# Altium schematic symbol library NXP Semiconductors Cortex-M0.SchLib: 92 symbols (part 3 of 5)
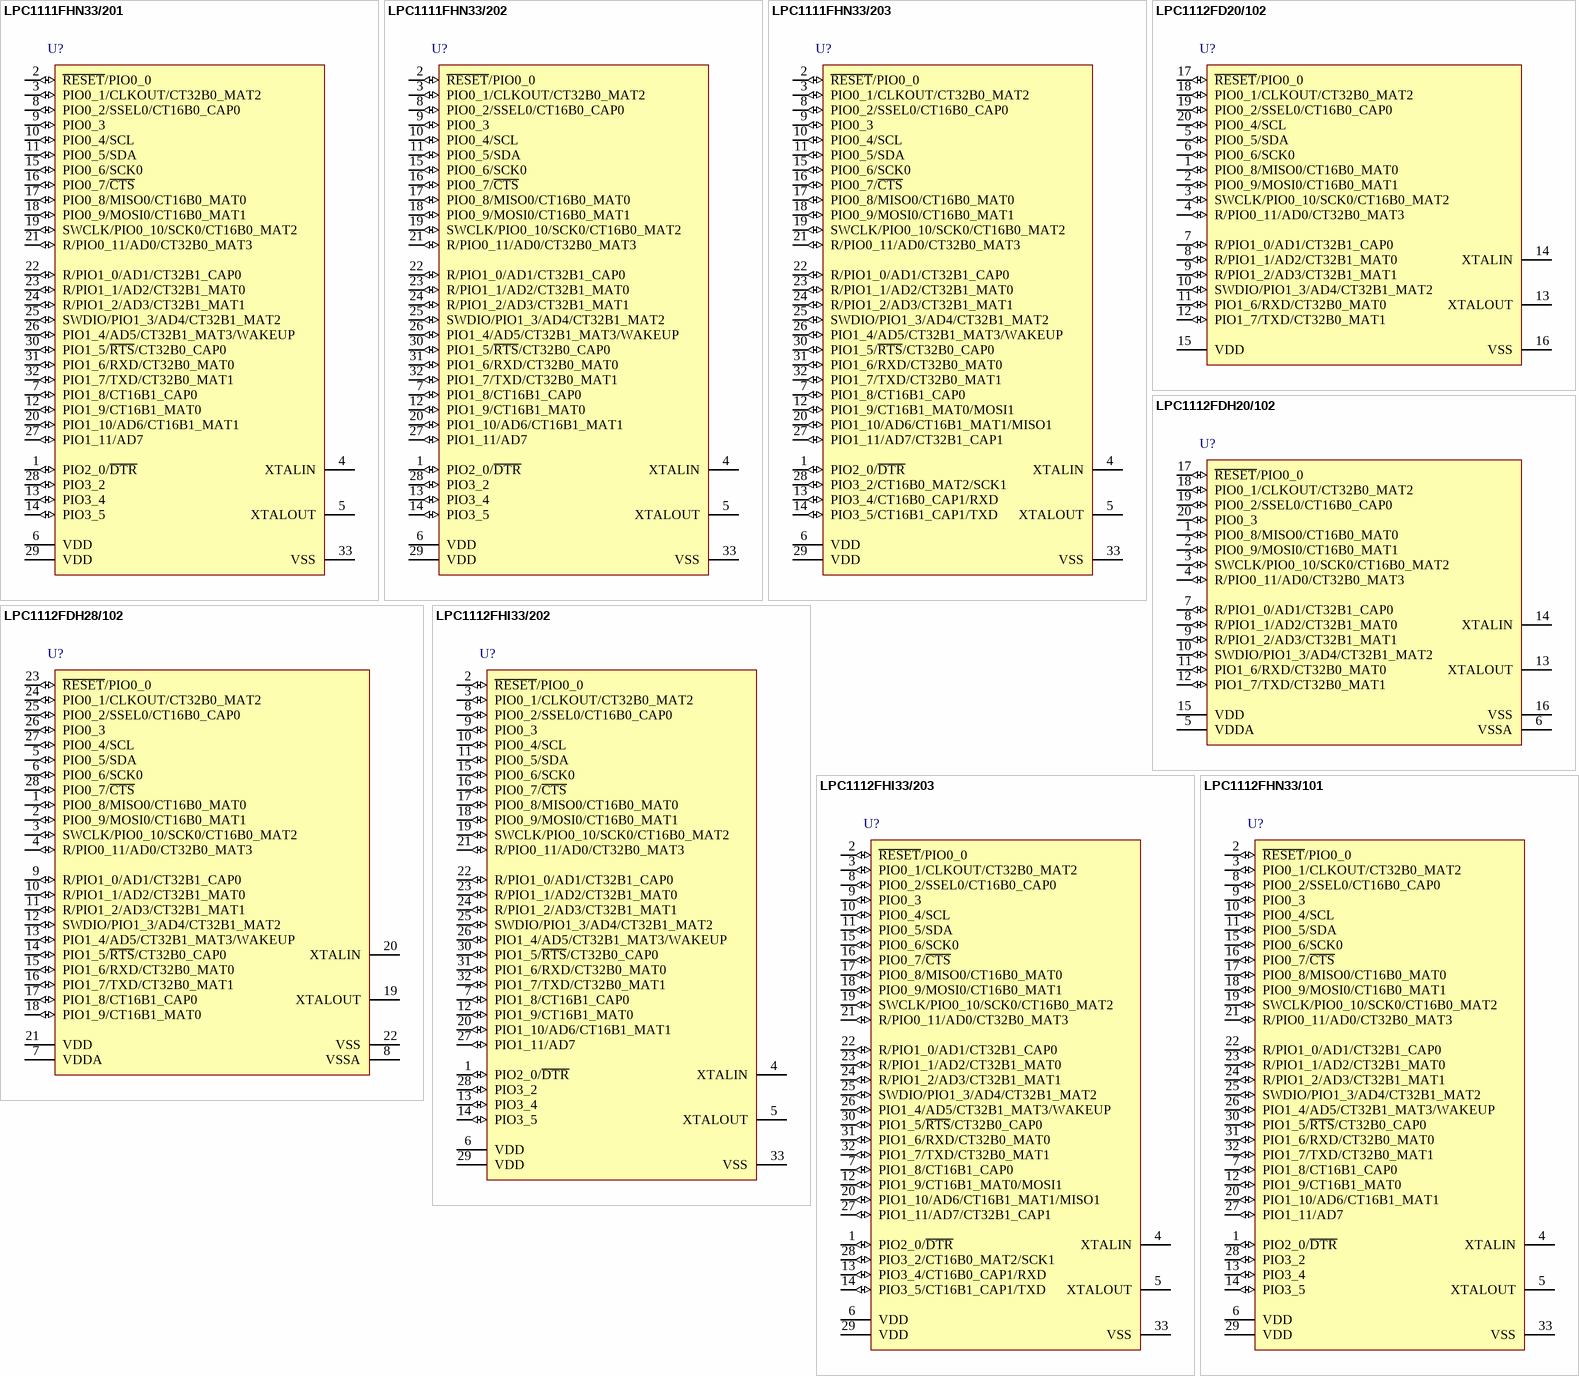
[diagram p18: symbols LPC1111FHN33/201 to LPC1112FHN33/101]

## LPC1112FDH20/102
designator U?
32-bit ARM Cortex-M0 MCU, LPC1100L Series, 16 kB Flash, 4 kB SRAM, 1 SPI, ADC, 20-Pin TSSOP; PartNumber: LPC1112FDH20/102; fmax: 50 MHz; SRAM: 4 kB; Flash: 16 kB; GPIOs: 14; UART: 1; PLL: Y; Timers: 4; ADC channels: 5; VDD (min): 1.8 V; VDD (typ): 3.3 V; VDD (max): 3.6 V; DatasheetVersion: Rev. 7.1, Apr-2012; PackageVersion: Feb-2003; PackageReference: SOT360-1; PackageDescription: TSSOP20: Plastic Thin Shrink Small Outline Package; 20 Leads; Body Width 4.4 mm; I2C: 1; SPI: 1; Code_JEDEC: MO-153; ComponentLink1Description: Manufacturer URL; ComponentLink1URL: http://www.nxp.com/; ComponentLink2Description: Datasheet; ComponentLink2URL: http://www.nxp.com/documents/data_sheet/LPC111X.pdf
footprint SOT360-1_V (TSOP, 20-Leads, Body 6.5x4.4mm, Pitch 0.65mm, NXP Recommended)
pins: 1 PIO0_8/MISO0/CT16B0_MAT0 (io), 2 PIO0_9/MOSI0/CT16B0_MAT1 (io), 3 SWCLK/PIO0_10/SCK0/CT16B0_MAT2 (io), 4 R/PIO0_11/AD0/CT32B0_MAT3 (io), 5 VDDA (power), 6 VSSA (power), 7 R/PIO1_0/AD1/CT32B1_CAP0 (io), 8 R/PIO1_1/AD2/CT32B1_MAT0 (io), 9 R/PIO1_2/AD3/CT32B1_MAT1 (io), 10 SWDIO/PIO1_3/AD4/CT32B1_MAT2 (io), 11 PIO1_6/RXD/CT32B0_MAT0 (io), 12 PIO1_7/TXD/CT32B0_MAT1 (io), 13 XTALOUT, 14 XTALIN, 15 VDD (power), 16 VSS (power), 17 ~{RESET}/PIO0_0 (io), 18 PIO0_1/CLKOUT/CT32B0_MAT2 (io), 19 PIO0_2/SSEL0/CT16B0_CAP0 (io), 20 PIO0_3 (io)

## LPC1112FDH28/102
designator U?
32-bit ARM Cortex-M0 MCU, LPC1100L Series, 16 kB Flash, 4 kB SRAM, 1 SPI, ADC, 28-Pin TSSOP; PartNumber: LPC1112FDH28/102; fmax: 50 MHz; SRAM: 4 kB; Flash: 16 kB; GPIOs: 22; UART: 1; PLL: Y; Timers: 4; ADC channels: 6; VDD (min): 1.8 V; VDD (typ): 3.3 V; VDD (max): 3.6 V; DatasheetVersion: Rev. 7.1, Apr-2012; PackageVersion: Feb-2003; PackageReference: SOT361-1; PackageDescription: TSSOP28: Plastic Thin Shrink Small Outline Package; 28 Leads; Body Width 4.4 mm; I2C: 1; SPI: 1; ComponentLink1Description: Manufacturer URL; ComponentLink1URL: http://www.nxp.com/; ComponentLink2Description: Datasheet; ComponentLink2URL: http://www.nxp.com/documents/data_sheet/LPC111X.pdf
footprint SOT361-1_V (SOP, 28-Leads, Body 9.7x4.4mm, Pitch 0.65mm, NXP Recommended)
pins: 1 PIO0_8/MISO0/CT16B0_MAT0 (io), 2 PIO0_9/MOSI0/CT16B0_MAT1 (io), 3 SWCLK/PIO0_10/SCK0/CT16B0_MAT2 (io), 4 R/PIO0_11/AD0/CT32B0_MAT3 (io), 5 PIO0_5/SDA (io), 6 PIO0_6/SCK0 (io), 7 VDDA (power), 8 VSSA (power), 9 R/PIO1_0/AD1/CT32B1_CAP0 (io), 10 R/PIO1_1/AD2/CT32B1_MAT0 (io), 11 R/PIO1_2/AD3/CT32B1_MAT1 (io), 12 SWDIO/PIO1_3/AD4/CT32B1_MAT2 (io), 13 PIO1_4/AD5/CT32B1_MAT3/WAKEUP (io), 14 PIO1_5/~{RTS}/CT32B0_CAP0 (io), 15 PIO1_6/RXD/CT32B0_MAT0 (io), 16 PIO1_7/TXD/CT32B0_MAT1 (io), 17 PIO1_8/CT16B1_CAP0 (io), 18 PIO1_9/CT16B1_MAT0 (io), 19 XTALOUT, 20 XTALIN, 21 VDD (power), 22 VSS (power), 23 ~{RESET}/PIO0_0 (io), 24 PIO0_1/CLKOUT/CT32B0_MAT2 (io), 25 PIO0_2/SSEL0/CT16B0_CAP0 (io), 26 PIO0_3 (io), 27 PIO0_4/SCL (io), 28 PIO0_7/~{CTS} (io)

## LPC1112FHI33/202
designator U?
32-bit ARM Cortex-M0 MCU, LPC1100L Series, 16 kB Flash, 4 kB SRAM, 1 SPI, ADC, 32-Pin HVQFN; PartNumber: LPC1112FHI33/202; fmax: 50 MHz; SRAM: 4 kB; Flash: 16 kB; GPIOs: 28; UART: 1; PLL: Y; Timers: 4; ADC channels: 8; VDD (min): 1.8 V; VDD (typ): 3.3 V; VDD (max): 3.6 V; DatasheetVersion: Rev. 7.1, Apr-2012; PackageVersion: Jun-2011; PackageReference: SOT617-3; PackageDescription: HVQFN32: Plastic Thermal Enhanced Very Thin Quad Flat Package; No Leads; 32 Terminals; Body 5 x 5 x 0.85 mm; I2C: 1; SPI: 1; Code_JEDEC: MO-220; ComponentLink1Description: Manufacturer URL; ComponentLink1URL: http://www.nxp.com/; ComponentLink2Description: Datasheet; ComponentLink2URL: http://www.nxp.com/documents/data_sheet/LPC111X.pdf
footprint SOT617-3_V (QFN, 32-Leads, Body 5x5mm, Pitch 0.5mm, Thermal Pad 3.5x3.5mm, NXP Recommended)
pins: 1 PIO2_0/~{DTR} (io), 2 ~{RESET}/PIO0_0 (io), 3 PIO0_1/CLKOUT/CT32B0_MAT2 (io), 4 XTALIN, 5 XTALOUT, 6 VDD (power), 7 PIO1_8/CT16B1_CAP0 (io), 8 PIO0_2/SSEL0/CT16B0_CAP0 (io), 9 PIO0_3 (io), 10 PIO0_4/SCL (io), 11 PIO0_5/SDA (io), 12 PIO1_9/CT16B1_MAT0 (io), 13 PIO3_4 (io), 14 PIO3_5 (io), 15 PIO0_6/SCK0 (io), 16 PIO0_7/~{CTS} (io), 17 PIO0_8/MISO0/CT16B0_MAT0 (io), 18 PIO0_9/MOSI0/CT16B0_MAT1 (io), 19 SWCLK/PIO0_10/SCK0/CT16B0_MAT2 (io), 20 PIO1_10/AD6/CT16B1_MAT1 (io), 21 R/PIO0_11/AD0/CT32B0_MAT3 (io), 22 R/PIO1_0/AD1/CT32B1_CAP0 (io), 23 R/PIO1_1/AD2/CT32B1_MAT0 (io), 24 R/PIO1_2/AD3/CT32B1_MAT1 (io), 25 SWDIO/PIO1_3/AD4/CT32B1_MAT2 (io), 26 PIO1_4/AD5/CT32B1_MAT3/WAKEUP (io), 27 PIO1_11/AD7 (io), 28 PIO3_2 (io), 29 VDD (power), 30 PIO1_5/~{RTS}/CT32B0_CAP0 (io), 31 PIO1_6/RXD/CT32B0_MAT0 (io), 32 PIO1_7/TXD/CT32B0_MAT1 (io), 33 VSS (power)

## LPC1112FHI33/203
designator U?
32-bit ARM Cortex-M0 MCU, LPC1100XL Series, 16 kB Flash, 4 kB SRAM, 2 SPI, ADC, 32-Pin HVQFN; PartNumber: LPC1112FHI33/203; fmax: 50 MHz; SRAM: 4 kB; Flash: 16 kB; GPIOs: 28; UART: 1; SPI: 2; PLL: Y; Timers: 4; ADC channels: 8; VDD (min): 1.8 V; VDD (typ): 3.3 V; VDD (max): 3.6 V; DatasheetVersion: Rev. 7.1, Apr-2012; PackageVersion: Jun-2011; PackageReference: SOT617-3; PackageDescription: HVQFN32: Plastic Thermal Enhanced Very Thin Quad Flat Package; No Leads; 32 Terminals; Body 5 x 5 x 0.85 mm; I2C: 1; Code_JEDEC: MO-220; ComponentLink1Description: Manufacturer URL; ComponentLink1URL: http://www.nxp.com/; ComponentLink2Description: Datasheet; ComponentLink2URL: http://www.nxp.com/documents/data_sheet/LPC111X.pdf
footprint SOT617-3_V (QFN, 32-Leads, Body 5x5mm, Pitch 0.5mm, Thermal Pad 3.5x3.5mm, NXP Recommended)
pins: 1 PIO2_0/~{DTR} (io), 2 ~{RESET}/PIO0_0 (io), 3 PIO0_1/CLKOUT/CT32B0_MAT2 (io), 4 XTALIN, 5 XTALOUT, 6 VDD (power), 7 PIO1_8/CT16B1_CAP0 (io), 8 PIO0_2/SSEL0/CT16B0_CAP0 (io), 9 PIO0_3 (io), 10 PIO0_4/SCL (io), 11 PIO0_5/SDA (io), 12 PIO1_9/CT16B1_MAT0/MOSI1 (io), 13 PIO3_4/CT16B0_CAP1/RXD (io), 14 PIO3_5/CT16B1_CAP1/TXD (io), 15 PIO0_6/SCK0 (io), 16 PIO0_7/~{CTS} (io), 17 PIO0_8/MISO0/CT16B0_MAT0 (io), 18 PIO0_9/MOSI0/CT16B0_MAT1 (io), 19 SWCLK/PIO0_10/SCK0/CT16B0_MAT2 (io), 20 PIO1_10/AD6/CT16B1_MAT1/MISO1 (io), 21 R/PIO0_11/AD0/CT32B0_MAT3 (io), 22 R/PIO1_0/AD1/CT32B1_CAP0 (io), 23 R/PIO1_1/AD2/CT32B1_MAT0 (io), 24 R/PIO1_2/AD3/CT32B1_MAT1 (io), 25 SWDIO/PIO1_3/AD4/CT32B1_MAT2 (io), 26 PIO1_4/AD5/CT32B1_MAT3/WAKEUP (io), 27 PIO1_11/AD7/CT32B1_CAP1 (io), 28 PIO3_2/CT16B0_MAT2/SCK1 (io), 29 VDD (power), 30 PIO1_5/~{RTS}/CT32B0_CAP0 (io), 31 PIO1_6/RXD/CT32B0_MAT0 (io), 32 PIO1_7/TXD/CT32B0_MAT1 (io), 33 VSS (power)

## LPC1112FHN33/101
designator U?
32-bit ARM Cortex-M0 MCU, LPC1100 Series, 16 kB Flash, 2 kB SRAM, 1 SPI, ADC, 32-Pin HVQFN; PartNumber: LPC1112FHN33/101; fmax: 50 MHz; SRAM: 2 kB; Flash: 16 kB; GPIOs: 28; UART: 1; PLL: Y; Timers: 4; ADC channels: 8; VDD (min): 1.8 V; VDD (typ): 3.3 V; VDD (max): 3.6 V; DatasheetVersion: Rev. 7.1, Apr-2012; PackageVersion: Jun-2009; PackageReference: SOT865-3; PackageDescription: HVQFN32: Plastic Thermal Enhanced Very Thin Quad Flat Package; No Leads; 32 Terminals; Body 7 x 7 x 0.85 mm; I2C: 1; SPI: 1; Code_JEDEC: MO-220; ComponentLink1Description: Manufacturer URL; ComponentLink1URL: http://www.nxp.com/; ComponentLink2Description: Datasheet; ComponentLink2URL: http://www.nxp.com/documents/data_sheet/LPC111X.pdf
footprint SOT865-3_V (QFN, 32-Leads, Body 7x7mm, Pitch 0.65mm, Thermal Pad 4.7x4.7mm, NXP Recommended)
footprint SOT865-3_N (QFN, 32-Leads, Body 7x7mm, Pitch 0.65mm, Thermal Pad 4.9x4.9mm, IPC Medium Density)
footprint SOT865-3_L (QFN, 32-Leads, Body 7x7mm, Pitch 0.65mm, Thermal Pad 4.9x4.9mm, IPC High Density)
footprint SOT865-3_M (QFN, 32-Leads, Body 7x7mm, Pitch 0.65mm, Thermal Pad 4.9x4.9mm, IPC Low Density)
pins: 1 PIO2_0/~{DTR} (io), 2 ~{RESET}/PIO0_0 (io), 3 PIO0_1/CLKOUT/CT32B0_MAT2 (io), 4 XTALIN, 5 XTALOUT, 6 VDD (power), 7 PIO1_8/CT16B1_CAP0 (io), 8 PIO0_2/SSEL0/CT16B0_CAP0 (io), 9 PIO0_3 (io), 10 PIO0_4/SCL (io), 11 PIO0_5/SDA (io), 12 PIO1_9/CT16B1_MAT0 (io), 13 PIO3_4 (io), 14 PIO3_5 (io), 15 PIO0_6/SCK0 (io), 16 PIO0_7/~{CTS} (io), 17 PIO0_8/MISO0/CT16B0_MAT0 (io), 18 PIO0_9/MOSI0/CT16B0_MAT1 (io), 19 SWCLK/PIO0_10/SCK0/CT16B0_MAT2 (io), 20 PIO1_10/AD6/CT16B1_MAT1 (io), 21 R/PIO0_11/AD0/CT32B0_MAT3 (io), 22 R/PIO1_0/AD1/CT32B1_CAP0 (io), 23 R/PIO1_1/AD2/CT32B1_MAT0 (io), 24 R/PIO1_2/AD3/CT32B1_MAT1 (io), 25 SWDIO/PIO1_3/AD4/CT32B1_MAT2 (io), 26 PIO1_4/AD5/CT32B1_MAT3/WAKEUP (io), 27 PIO1_11/AD7 (io), 28 PIO3_2 (io), 29 VDD (power), 30 PIO1_5/~{RTS}/CT32B0_CAP0 (io), 31 PIO1_6/RXD/CT32B0_MAT0 (io), 32 PIO1_7/TXD/CT32B0_MAT1 (io), 33 VSS (power)

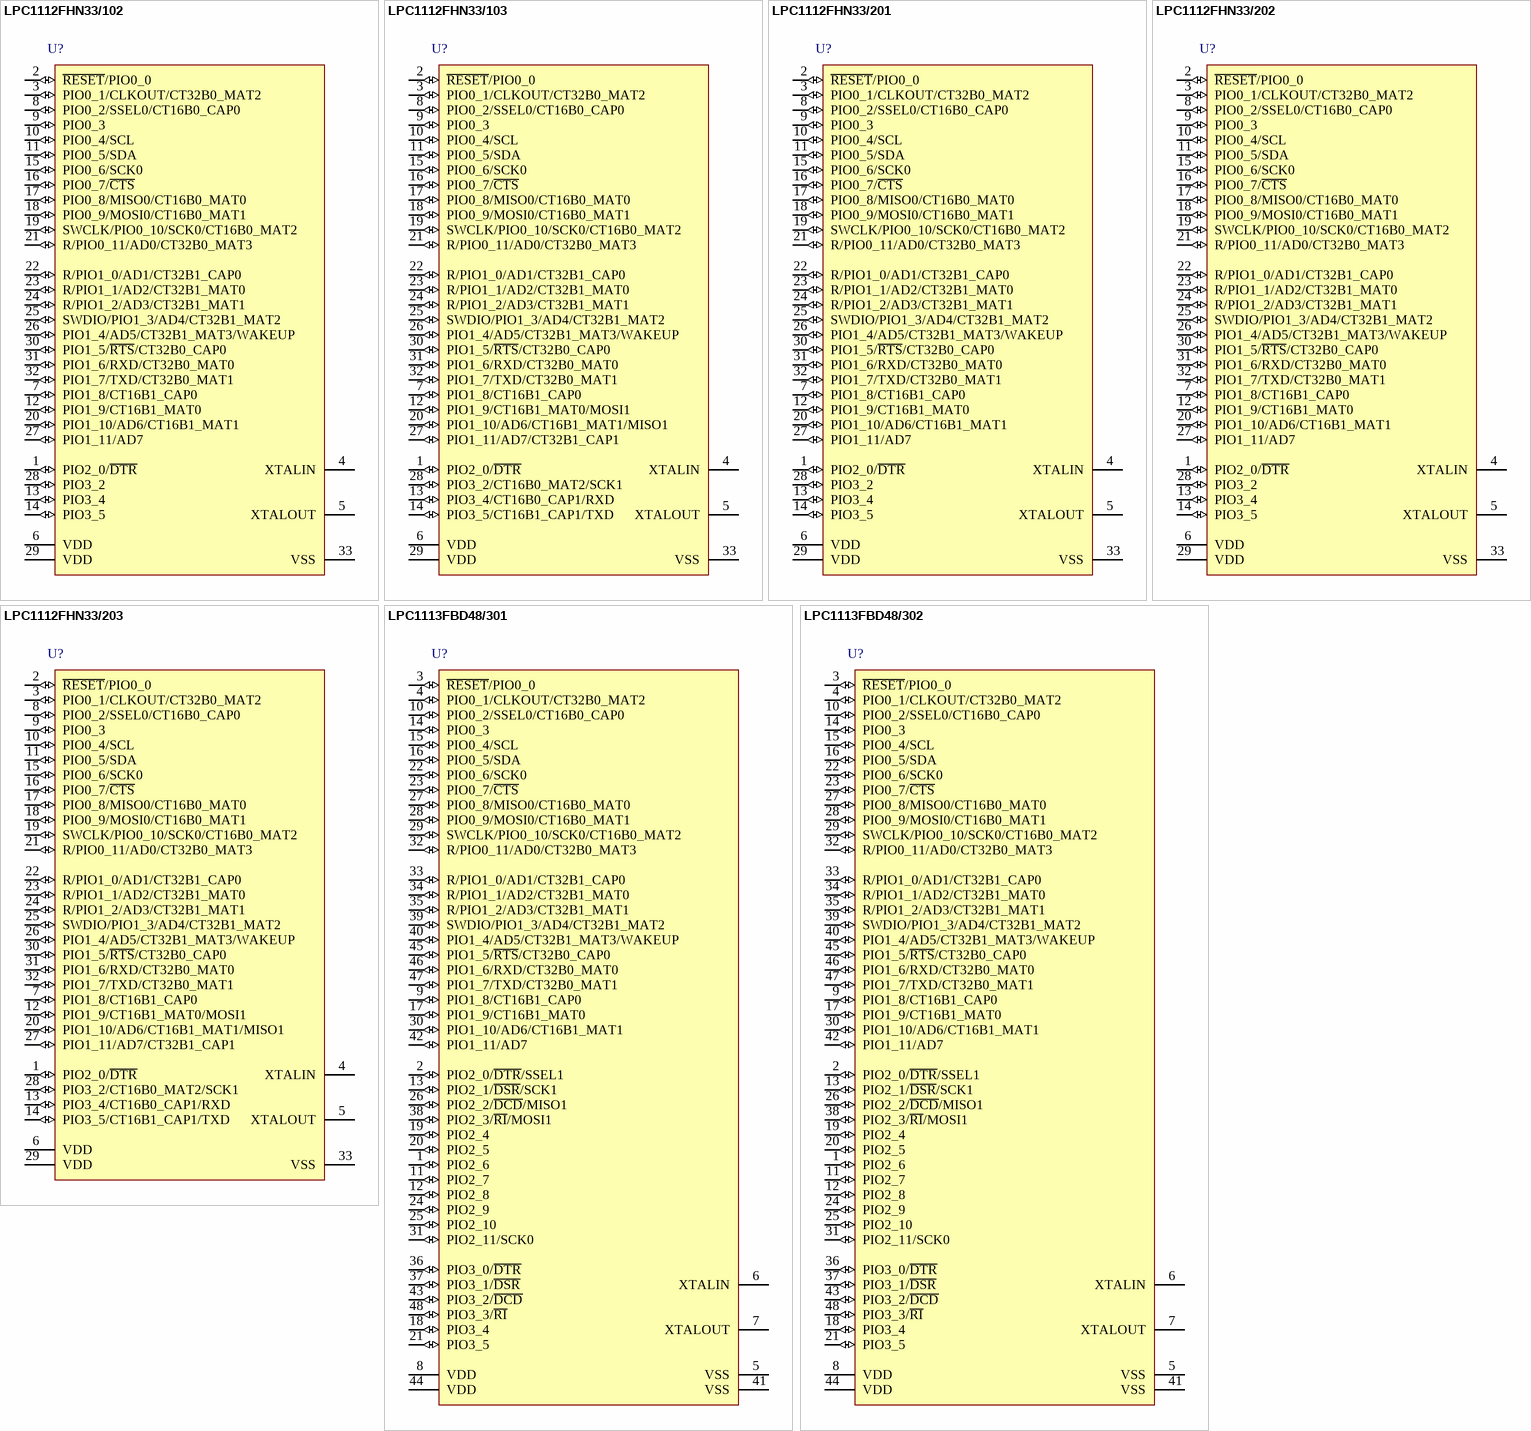
[diagram p8: symbols LPC1112FHN33/102 to LPC1113FBD48/302]

## LPC1112FHN33/102
designator U?
32-bit ARM Cortex-M0 MCU, LPC1100L Series, 16 kB Flash, 2 kB SRAM, 1 SPI, ADC, 32-Pin HVQFN; PartNumber: LPC1112FHN33/102; fmax: 50 MHz; SRAM: 2 kB; Flash: 16 kB; GPIOs: 28; UART: 1; PLL: Y; Timers: 4; ADC channels: 8; VDD (min): 1.8 V; VDD (typ): 3.3 V; VDD (max): 3.6 V; DatasheetVersion: Rev. 7.1, Apr-2012; PackageVersion: Jun-2009; PackageReference: SOT865-3; PackageDescription: HVQFN32: Plastic Thermal Enhanced Very Thin Quad Flat Package; No Leads; 32 Terminals; Body 7 x 7 x 0.85 mm; I2C: 1; SPI: 1; Code_JEDEC: MO-220; ComponentLink1Description: Manufacturer URL; ComponentLink1URL: http://www.nxp.com/; ComponentLink2Description: Datasheet; ComponentLink2URL: http://www.nxp.com/documents/data_sheet/LPC111X.pdf
footprint SOT865-3_V (QFN, 32-Leads, Body 7x7mm, Pitch 0.65mm, Thermal Pad 4.7x4.7mm, NXP Recommended)
footprint SOT865-3_N (QFN, 32-Leads, Body 7x7mm, Pitch 0.65mm, Thermal Pad 4.9x4.9mm, IPC Medium Density)
footprint SOT865-3_L (QFN, 32-Leads, Body 7x7mm, Pitch 0.65mm, Thermal Pad 4.9x4.9mm, IPC High Density)
footprint SOT865-3_M (QFN, 32-Leads, Body 7x7mm, Pitch 0.65mm, Thermal Pad 4.9x4.9mm, IPC Low Density)
pins: 1 PIO2_0/~{DTR} (io), 2 ~{RESET}/PIO0_0 (io), 3 PIO0_1/CLKOUT/CT32B0_MAT2 (io), 4 XTALIN, 5 XTALOUT, 6 VDD (power), 7 PIO1_8/CT16B1_CAP0 (io), 8 PIO0_2/SSEL0/CT16B0_CAP0 (io), 9 PIO0_3 (io), 10 PIO0_4/SCL (io), 11 PIO0_5/SDA (io), 12 PIO1_9/CT16B1_MAT0 (io), 13 PIO3_4 (io), 14 PIO3_5 (io), 15 PIO0_6/SCK0 (io), 16 PIO0_7/~{CTS} (io), 17 PIO0_8/MISO0/CT16B0_MAT0 (io), 18 PIO0_9/MOSI0/CT16B0_MAT1 (io), 19 SWCLK/PIO0_10/SCK0/CT16B0_MAT2 (io), 20 PIO1_10/AD6/CT16B1_MAT1 (io), 21 R/PIO0_11/AD0/CT32B0_MAT3 (io), 22 R/PIO1_0/AD1/CT32B1_CAP0 (io), 23 R/PIO1_1/AD2/CT32B1_MAT0 (io), 24 R/PIO1_2/AD3/CT32B1_MAT1 (io), 25 SWDIO/PIO1_3/AD4/CT32B1_MAT2 (io), 26 PIO1_4/AD5/CT32B1_MAT3/WAKEUP (io), 27 PIO1_11/AD7 (io), 28 PIO3_2 (io), 29 VDD (power), 30 PIO1_5/~{RTS}/CT32B0_CAP0 (io), 31 PIO1_6/RXD/CT32B0_MAT0 (io), 32 PIO1_7/TXD/CT32B0_MAT1 (io), 33 VSS (power)

## LPC1112FHN33/103
designator U?
32-bit ARM Cortex-M0 MCU, LPC1100XL Series, 16 kB Flash, 2 kB SRAM, 2 SPI, ADC, 32-Pin HVQFN; PartNumber: LPC1112FHN33/103; fmax: 50 MHz; SRAM: 2 kB; Flash: 16 kB; GPIOs: 28; UART: 1; SPI: 2; PLL: Y; Timers: 4; ADC channels: 8; VDD (min): 1.8 V; VDD (typ): 3.3 V; VDD (max): 3.6 V; DatasheetVersion: Rev. 7.1, Apr-2012; PackageVersion: Jun-2009; PackageReference: SOT865-3; PackageDescription: HVQFN32: Plastic Thermal Enhanced Very Thin Quad Flat Package; No Leads; 32 Terminals; Body 7 x 7 x 0.85 mm; I2C: 1; Code_JEDEC: MO-220; ComponentLink1Description: Manufacturer URL; ComponentLink1URL: http://www.nxp.com/; ComponentLink2Description: Datasheet; ComponentLink2URL: http://www.nxp.com/documents/data_sheet/LPC111X.pdf
footprint SOT865-3_V (QFN, 32-Leads, Body 7x7mm, Pitch 0.65mm, Thermal Pad 4.7x4.7mm, NXP Recommended)
footprint SOT865-3_N (QFN, 32-Leads, Body 7x7mm, Pitch 0.65mm, Thermal Pad 4.9x4.9mm, IPC Medium Density)
footprint SOT865-3_L (QFN, 32-Leads, Body 7x7mm, Pitch 0.65mm, Thermal Pad 4.9x4.9mm, IPC High Density)
footprint SOT865-3_M (QFN, 32-Leads, Body 7x7mm, Pitch 0.65mm, Thermal Pad 4.9x4.9mm, IPC Low Density)
pins: 1 PIO2_0/~{DTR} (io), 2 ~{RESET}/PIO0_0 (io), 3 PIO0_1/CLKOUT/CT32B0_MAT2 (io), 4 XTALIN, 5 XTALOUT, 6 VDD (power), 7 PIO1_8/CT16B1_CAP0 (io), 8 PIO0_2/SSEL0/CT16B0_CAP0 (io), 9 PIO0_3 (io), 10 PIO0_4/SCL (io), 11 PIO0_5/SDA (io), 12 PIO1_9/CT16B1_MAT0/MOSI1 (io), 13 PIO3_4/CT16B0_CAP1/RXD (io), 14 PIO3_5/CT16B1_CAP1/TXD (io), 15 PIO0_6/SCK0 (io), 16 PIO0_7/~{CTS} (io), 17 PIO0_8/MISO0/CT16B0_MAT0 (io), 18 PIO0_9/MOSI0/CT16B0_MAT1 (io), 19 SWCLK/PIO0_10/SCK0/CT16B0_MAT2 (io), 20 PIO1_10/AD6/CT16B1_MAT1/MISO1 (io), 21 R/PIO0_11/AD0/CT32B0_MAT3 (io), 22 R/PIO1_0/AD1/CT32B1_CAP0 (io), 23 R/PIO1_1/AD2/CT32B1_MAT0 (io), 24 R/PIO1_2/AD3/CT32B1_MAT1 (io), 25 SWDIO/PIO1_3/AD4/CT32B1_MAT2 (io), 26 PIO1_4/AD5/CT32B1_MAT3/WAKEUP (io), 27 PIO1_11/AD7/CT32B1_CAP1 (io), 28 PIO3_2/CT16B0_MAT2/SCK1 (io), 29 VDD (power), 30 PIO1_5/~{RTS}/CT32B0_CAP0 (io), 31 PIO1_6/RXD/CT32B0_MAT0 (io), 32 PIO1_7/TXD/CT32B0_MAT1 (io), 33 VSS (power)

## LPC1112FHN33/201
designator U?
32-bit ARM Cortex-M0 MCU, LPC1100 Series, 16 kB Flash, 4 kB SRAM, 1 SPI, ADC, 32-Pin HVQFN; PartNumber: LPC1112FHN33/201; fmax: 50 MHz; SRAM: 4 kB; Flash: 16 kB; GPIOs: 28; UART: 1; PLL: Y; Timers: 4; ADC channels: 8; VDD (min): 1.8 V; VDD (typ): 3.3 V; VDD (max): 3.6 V; DatasheetVersion: Rev. 7.1, Apr-2012; PackageVersion: Jun-2009; PackageReference: SOT865-3; PackageDescription: HVQFN32: Plastic Thermal Enhanced Very Thin Quad Flat Package; No Leads; 32 Terminals; Body 7 x 7 x 0.85 mm; I2C: 1; SPI: 1; Code_JEDEC: MO-220; ComponentLink1Description: Manufacturer URL; ComponentLink1URL: http://www.nxp.com/; ComponentLink2Description: Datasheet; ComponentLink2URL: http://www.nxp.com/documents/data_sheet/LPC111X.pdf
footprint SOT865-3_V (QFN, 32-Leads, Body 7x7mm, Pitch 0.65mm, Thermal Pad 4.7x4.7mm, NXP Recommended)
footprint SOT865-3_N (QFN, 32-Leads, Body 7x7mm, Pitch 0.65mm, Thermal Pad 4.9x4.9mm, IPC Medium Density)
footprint SOT865-3_L (QFN, 32-Leads, Body 7x7mm, Pitch 0.65mm, Thermal Pad 4.9x4.9mm, IPC High Density)
footprint SOT865-3_M (QFN, 32-Leads, Body 7x7mm, Pitch 0.65mm, Thermal Pad 4.9x4.9mm, IPC Low Density)
pins: 1 PIO2_0/~{DTR} (io), 2 ~{RESET}/PIO0_0 (io), 3 PIO0_1/CLKOUT/CT32B0_MAT2 (io), 4 XTALIN, 5 XTALOUT, 6 VDD (power), 7 PIO1_8/CT16B1_CAP0 (io), 8 PIO0_2/SSEL0/CT16B0_CAP0 (io), 9 PIO0_3 (io), 10 PIO0_4/SCL (io), 11 PIO0_5/SDA (io), 12 PIO1_9/CT16B1_MAT0 (io), 13 PIO3_4 (io), 14 PIO3_5 (io), 15 PIO0_6/SCK0 (io), 16 PIO0_7/~{CTS} (io), 17 PIO0_8/MISO0/CT16B0_MAT0 (io), 18 PIO0_9/MOSI0/CT16B0_MAT1 (io), 19 SWCLK/PIO0_10/SCK0/CT16B0_MAT2 (io), 20 PIO1_10/AD6/CT16B1_MAT1 (io), 21 R/PIO0_11/AD0/CT32B0_MAT3 (io), 22 R/PIO1_0/AD1/CT32B1_CAP0 (io), 23 R/PIO1_1/AD2/CT32B1_MAT0 (io), 24 R/PIO1_2/AD3/CT32B1_MAT1 (io), 25 SWDIO/PIO1_3/AD4/CT32B1_MAT2 (io), 26 PIO1_4/AD5/CT32B1_MAT3/WAKEUP (io), 27 PIO1_11/AD7 (io), 28 PIO3_2 (io), 29 VDD (power), 30 PIO1_5/~{RTS}/CT32B0_CAP0 (io), 31 PIO1_6/RXD/CT32B0_MAT0 (io), 32 PIO1_7/TXD/CT32B0_MAT1 (io), 33 VSS (power)

## LPC1112FHN33/202
designator U?
32-bit ARM Cortex-M0 MCU, LPC1100L Series, 16 kB Flash, 4 kB SRAM, 1 SPI, ADC, 32-Pin HVQFN; PartNumber: LPC1112FHN33/202; fmax: 50 MHz; SRAM: 4 kB; Flash: 16 kB; GPIOs: 28; UART: 1; PLL: Y; Timers: 4; ADC channels: 8; VDD (min): 1.8 V; VDD (typ): 3.3 V; VDD (max): 3.6 V; DatasheetVersion: Rev. 7.1, Apr-2012; PackageVersion: Jun-2009; PackageReference: SOT865-3; PackageDescription: HVQFN32: Plastic Thermal Enhanced Very Thin Quad Flat Package; No Leads; 32 Terminals; Body 7 x 7 x 0.85 mm; I2C: 1; SPI: 1; Code_JEDEC: MO-220; ComponentLink1Description: Manufacturer URL; ComponentLink1URL: http://www.nxp.com/; ComponentLink2Description: Datasheet; ComponentLink2URL: http://www.nxp.com/documents/data_sheet/LPC111X.pdf
footprint SOT865-3_V (QFN, 32-Leads, Body 7x7mm, Pitch 0.65mm, Thermal Pad 4.7x4.7mm, NXP Recommended)
footprint SOT865-3_N (QFN, 32-Leads, Body 7x7mm, Pitch 0.65mm, Thermal Pad 4.9x4.9mm, IPC Medium Density)
footprint SOT865-3_L (QFN, 32-Leads, Body 7x7mm, Pitch 0.65mm, Thermal Pad 4.9x4.9mm, IPC High Density)
footprint SOT865-3_M (QFN, 32-Leads, Body 7x7mm, Pitch 0.65mm, Thermal Pad 4.9x4.9mm, IPC Low Density)
pins: 1 PIO2_0/~{DTR} (io), 2 ~{RESET}/PIO0_0 (io), 3 PIO0_1/CLKOUT/CT32B0_MAT2 (io), 4 XTALIN, 5 XTALOUT, 6 VDD (power), 7 PIO1_8/CT16B1_CAP0 (io), 8 PIO0_2/SSEL0/CT16B0_CAP0 (io), 9 PIO0_3 (io), 10 PIO0_4/SCL (io), 11 PIO0_5/SDA (io), 12 PIO1_9/CT16B1_MAT0 (io), 13 PIO3_4 (io), 14 PIO3_5 (io), 15 PIO0_6/SCK0 (io), 16 PIO0_7/~{CTS} (io), 17 PIO0_8/MISO0/CT16B0_MAT0 (io), 18 PIO0_9/MOSI0/CT16B0_MAT1 (io), 19 SWCLK/PIO0_10/SCK0/CT16B0_MAT2 (io), 20 PIO1_10/AD6/CT16B1_MAT1 (io), 21 R/PIO0_11/AD0/CT32B0_MAT3 (io), 22 R/PIO1_0/AD1/CT32B1_CAP0 (io), 23 R/PIO1_1/AD2/CT32B1_MAT0 (io), 24 R/PIO1_2/AD3/CT32B1_MAT1 (io), 25 SWDIO/PIO1_3/AD4/CT32B1_MAT2 (io), 26 PIO1_4/AD5/CT32B1_MAT3/WAKEUP (io), 27 PIO1_11/AD7 (io), 28 PIO3_2 (io), 29 VDD (power), 30 PIO1_5/~{RTS}/CT32B0_CAP0 (io), 31 PIO1_6/RXD/CT32B0_MAT0 (io), 32 PIO1_7/TXD/CT32B0_MAT1 (io), 33 VSS (power)

## LPC1112FHN33/203
designator U?
32-bit ARM Cortex-M0 MCU, LPC1100XL Series, 16 kB Flash, 4 kB SRAM, 2 SPI, ADC, 32-Pin HVQFN; PartNumber: LPC1112FHN33/203; fmax: 50 MHz; SRAM: 4 kB; Flash: 16 kB; GPIOs: 28; UART: 1; SPI: 2; PLL: Y; Timers: 4; ADC channels: 8; VDD (min): 1.8 V; VDD (typ): 3.3 V; VDD (max): 3.6 V; DatasheetVersion: Rev. 7.1, Apr-2012; PackageVersion: Jun-2009; PackageReference: SOT865-3; PackageDescription: HVQFN32: Plastic Thermal Enhanced Very Thin Quad Flat Package; No Leads; 32 Terminals; Body 7 x 7 x 0.85 mm; I2C: 1; Code_JEDEC: MO-220; ComponentLink1Description: Manufacturer URL; ComponentLink1URL: http://www.nxp.com/; ComponentLink2Description: Datasheet; ComponentLink2URL: http://www.nxp.com/documents/data_sheet/LPC111X.pdf
footprint SOT865-3_V (QFN, 32-Leads, Body 7x7mm, Pitch 0.65mm, Thermal Pad 4.7x4.7mm, NXP Recommended)
footprint SOT865-3_N (QFN, 32-Leads, Body 7x7mm, Pitch 0.65mm, Thermal Pad 4.9x4.9mm, IPC Medium Density)
footprint SOT865-3_L (QFN, 32-Leads, Body 7x7mm, Pitch 0.65mm, Thermal Pad 4.9x4.9mm, IPC High Density)
footprint SOT865-3_M (QFN, 32-Leads, Body 7x7mm, Pitch 0.65mm, Thermal Pad 4.9x4.9mm, IPC Low Density)
pins: 1 PIO2_0/~{DTR} (io), 2 ~{RESET}/PIO0_0 (io), 3 PIO0_1/CLKOUT/CT32B0_MAT2 (io), 4 XTALIN, 5 XTALOUT, 6 VDD (power), 7 PIO1_8/CT16B1_CAP0 (io), 8 PIO0_2/SSEL0/CT16B0_CAP0 (io), 9 PIO0_3 (io), 10 PIO0_4/SCL (io), 11 PIO0_5/SDA (io), 12 PIO1_9/CT16B1_MAT0/MOSI1 (io), 13 PIO3_4/CT16B0_CAP1/RXD (io), 14 PIO3_5/CT16B1_CAP1/TXD (io), 15 PIO0_6/SCK0 (io), 16 PIO0_7/~{CTS} (io), 17 PIO0_8/MISO0/CT16B0_MAT0 (io), 18 PIO0_9/MOSI0/CT16B0_MAT1 (io), 19 SWCLK/PIO0_10/SCK0/CT16B0_MAT2 (io), 20 PIO1_10/AD6/CT16B1_MAT1/MISO1 (io), 21 R/PIO0_11/AD0/CT32B0_MAT3 (io), 22 R/PIO1_0/AD1/CT32B1_CAP0 (io), 23 R/PIO1_1/AD2/CT32B1_MAT0 (io), 24 R/PIO1_2/AD3/CT32B1_MAT1 (io), 25 SWDIO/PIO1_3/AD4/CT32B1_MAT2 (io), 26 PIO1_4/AD5/CT32B1_MAT3/WAKEUP (io), 27 PIO1_11/AD7/CT32B1_CAP1 (io), 28 PIO3_2/CT16B0_MAT2/SCK1 (io), 29 VDD (power), 30 PIO1_5/~{RTS}/CT32B0_CAP0 (io), 31 PIO1_6/RXD/CT32B0_MAT0 (io), 32 PIO1_7/TXD/CT32B0_MAT1 (io), 33 VSS (power)

## LPC1113FBD48/301
designator U?
32-bit ARM Cortex-M0 MCU, LPC1100 Series, 24 kB Flash, 8 kB SRAM, 2 SPI, ADC, 48-Pin LQFP; PartNumber: LPC1113FBD48/301; fmax: 50 MHz; SRAM: 8 kB; Flash: 24 kB; GPIOs: 42; UART: 1; SPI: 2; PLL: Y; Timers: 4; ADC channels: 8; VDD (min): 1.8 V; VDD (typ): 3.3 V; VDD (max): 3.6 V; Code_IEC: 136E05; DatasheetVersion: Rev. 7.1, Apr-2012; PackageVersion: Feb-2003; PackageReference: SOT313-2; PackageDescription: LQFP48: Plastic Low Profile Quad Flat Package; 48 Leads; Body 7 x 7 x 1.4 mm; I2C: 1; Code_JEDEC: MS-026; ComponentLink1Description: Manufacturer URL; ComponentLink1URL: http://www.nxp.com/; ComponentLink2Description: Datasheet; ComponentLink2URL: http://www.nxp.com/documents/data_sheet/LPC111X.pdf
footprint SOT313-2_V (Thin QFP, 48-Leads, Body 7x7mm, Pitch 0.5mm, NXP Recommended)
pins: 1 PIO2_6 (io), 2 PIO2_0/~{DTR}/SSEL1 (io), 3 ~{RESET}/PIO0_0 (io), 4 PIO0_1/CLKOUT/CT32B0_MAT2 (io), 5 VSS (power), 6 XTALIN, 7 XTALOUT, 8 VDD (power), 9 PIO1_8/CT16B1_CAP0 (io), 10 PIO0_2/SSEL0/CT16B0_CAP0 (io), 11 PIO2_7 (io), 12 PIO2_8 (io), 13 PIO2_1/~{DSR}/SCK1 (io), 14 PIO0_3 (io), 15 PIO0_4/SCL (io), 16 PIO0_5/SDA (io), 17 PIO1_9/CT16B1_MAT0 (io), 18 PIO3_4 (io), 19 PIO2_4 (io), 20 PIO2_5 (io), 21 PIO3_5 (io), 22 PIO0_6/SCK0 (io), 23 PIO0_7/~{CTS} (io), 24 PIO2_9 (io), 25 PIO2_10 (io), 26 PIO2_2/~{DCD}/MISO1 (io), 27 PIO0_8/MISO0/CT16B0_MAT0 (io), 28 PIO0_9/MOSI0/CT16B0_MAT1 (io), 29 SWCLK/PIO0_10/SCK0/CT16B0_MAT2 (io), 30 PIO1_10/AD6/CT16B1_MAT1 (io), 31 PIO2_11/SCK0 (io), 32 R/PIO0_11/AD0/CT32B0_MAT3 (io), 33 R/PIO1_0/AD1/CT32B1_CAP0 (io), 34 R/PIO1_1/AD2/CT32B1_MAT0 (io), 35 R/PIO1_2/AD3/CT32B1_MAT1 (io), 36 PIO3_0/~{DTR} (io), 37 PIO3_1/~{DSR} (io), 38 PIO2_3/~{RI}/MOSI1 (io), 39 SWDIO/PIO1_3/AD4/CT32B1_MAT2 (io), 40 PIO1_4/AD5/CT32B1_MAT3/WAKEUP (io), 41 VSS (power), 42 PIO1_11/AD7 (io), 43 PIO3_2/~{DCD} (io), 44 VDD (power), 45 PIO1_5/~{RTS}/CT32B0_CAP0 (io), 46 PIO1_6/RXD/CT32B0_MAT0 (io), 47 PIO1_7/TXD/CT32B0_MAT1 (io), 48 PIO3_3/~{RI} (io)

## LPC1113FBD48/302
designator U?
32-bit ARM Cortex-M0 MCU, LPC1100L Series, 24 kB Flash, 8 kB SRAM, 2 SPI, ADC, 48-Pin LQFP; PartNumber: LPC1113FBD48/302; fmax: 50 MHz; SRAM: 8 kB; Flash: 24 kB; GPIOs: 42; UART: 1; SPI: 2; PLL: Y; Timers: 4; ADC channels: 8; VDD (min): 1.8 V; VDD (typ): 3.3 V; VDD (max): 3.6 V; Code_IEC: 136E05; DatasheetVersion: Rev. 7.1, Apr-2012; PackageVersion: Feb-2003; PackageReference: SOT313-2; PackageDescription: LQFP48: Plastic Low Profile Quad Flat Package; 48 Leads; Body 7 x 7 x 1.4 mm; I2C: 1; Code_JEDEC: MS-026; ComponentLink1Description: Manufacturer URL; ComponentLink1URL: http://www.nxp.com/; ComponentLink2Description: Datasheet; ComponentLink2URL: http://www.nxp.com/documents/data_sheet/LPC111X.pdf
footprint SOT313-2_V (Thin QFP, 48-Leads, Body 7x7mm, Pitch 0.5mm, NXP Recommended)
pins: 1 PIO2_6 (io), 2 PIO2_0/~{DTR}/SSEL1 (io), 3 ~{RESET}/PIO0_0 (io), 4 PIO0_1/CLKOUT/CT32B0_MAT2 (io), 5 VSS (power), 6 XTALIN, 7 XTALOUT, 8 VDD (power), 9 PIO1_8/CT16B1_CAP0 (io), 10 PIO0_2/SSEL0/CT16B0_CAP0 (io), 11 PIO2_7 (io), 12 PIO2_8 (io), 13 PIO2_1/~{DSR}/SCK1 (io), 14 PIO0_3 (io), 15 PIO0_4/SCL (io), 16 PIO0_5/SDA (io), 17 PIO1_9/CT16B1_MAT0 (io), 18 PIO3_4 (io), 19 PIO2_4 (io), 20 PIO2_5 (io), 21 PIO3_5 (io), 22 PIO0_6/SCK0 (io), 23 PIO0_7/~{CTS} (io), 24 PIO2_9 (io), 25 PIO2_10 (io), 26 PIO2_2/~{DCD}/MISO1 (io), 27 PIO0_8/MISO0/CT16B0_MAT0 (io), 28 PIO0_9/MOSI0/CT16B0_MAT1 (io), 29 SWCLK/PIO0_10/SCK0/CT16B0_MAT2 (io), 30 PIO1_10/AD6/CT16B1_MAT1 (io), 31 PIO2_11/SCK0 (io), 32 R/PIO0_11/AD0/CT32B0_MAT3 (io), 33 R/PIO1_0/AD1/CT32B1_CAP0 (io), 34 R/PIO1_1/AD2/CT32B1_MAT0 (io), 35 R/PIO1_2/AD3/CT32B1_MAT1 (io), 36 PIO3_0/~{DTR} (io), 37 PIO3_1/~{DSR} (io), 38 PIO2_3/~{RI}/MOSI1 (io), 39 SWDIO/PIO1_3/AD4/CT32B1_MAT2 (io), 40 PIO1_4/AD5/CT32B1_MAT3/WAKEUP (io), 41 VSS (power), 42 PIO1_11/AD7 (io), 43 PIO3_2/~{DCD} (io), 44 VDD (power), 45 PIO1_5/~{RTS}/CT32B0_CAP0 (io), 46 PIO1_6/RXD/CT32B0_MAT0 (io), 47 PIO1_7/TXD/CT32B0_MAT1 (io), 48 PIO3_3/~{RI} (io)

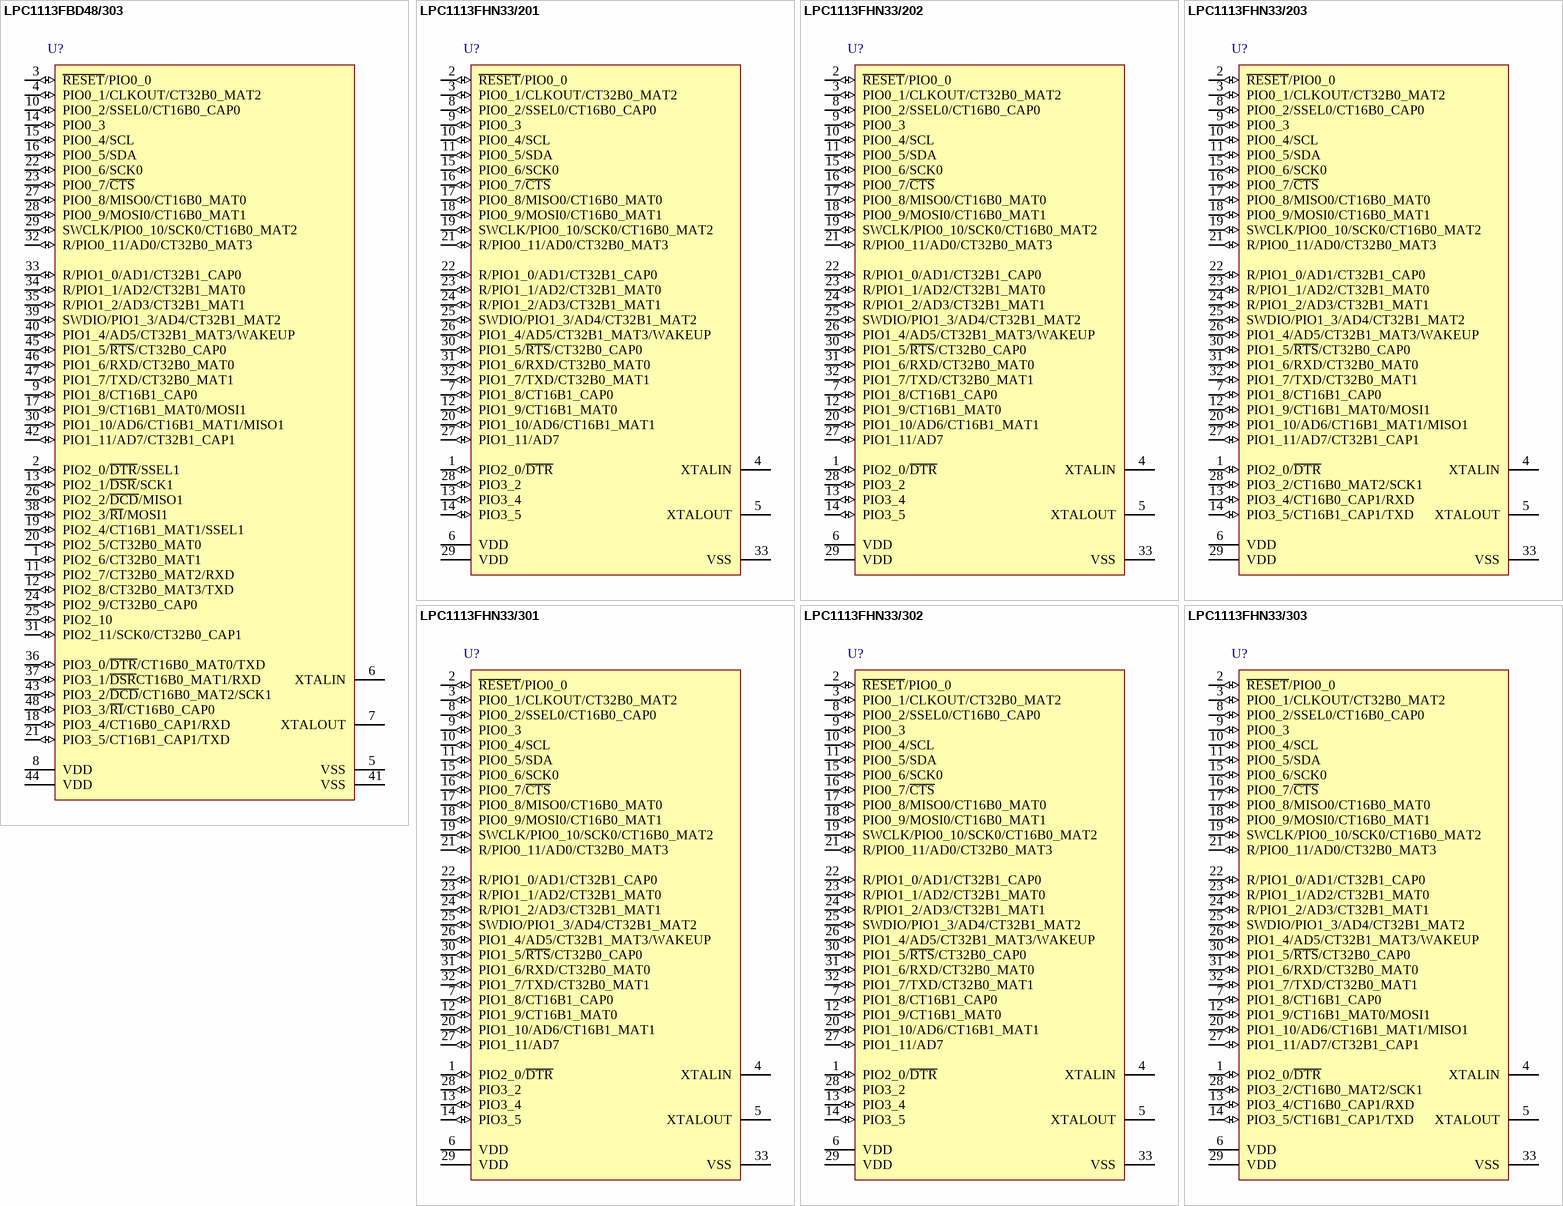
[diagram p9: symbols LPC1113FBD48/303 to LPC1113FHN33/303]

## LPC1113FBD48/303
designator U?
32-bit ARM Cortex-M0 MCU, LPC1100XL Series, 24 kB Flash, 8 kB SRAM, 2 SPI, ADC, 48-Pin LQFP; PartNumber: LPC1113FBD48/303; fmax: 50 MHz; SRAM: 8 kB; Flash: 24 kB; GPIOs: 42; UART: 1; SPI: 2; PLL: Y; Timers: 4; ADC channels: 8; VDD (min): 1.8 V; VDD (typ): 3.3 V; VDD (max): 3.6 V; Code_IEC: 136E05; DatasheetVersion: Rev. 7.1, Apr-2012; PackageVersion: Feb-2003; PackageReference: SOT313-2; PackageDescription: LQFP48: Plastic Low Profile Quad Flat Package; 48 Leads; Body 7 x 7 x 1.4 mm; I2C: 1; Code_JEDEC: MS-026; ComponentLink1Description: Manufacturer URL; ComponentLink1URL: http://www.nxp.com/; ComponentLink2Description: Datasheet; ComponentLink2URL: http://www.nxp.com/documents/data_sheet/LPC111X.pdf
footprint SOT313-2_V (Thin QFP, 48-Leads, Body 7x7mm, Pitch 0.5mm, NXP Recommended)
pins: 1 PIO2_6/CT32B0_MAT1 (io), 2 PIO2_0/~{DTR}/SSEL1 (io), 3 ~{RESET}/PIO0_0 (io), 4 PIO0_1/CLKOUT/CT32B0_MAT2 (io), 5 VSS (power), 6 XTALIN, 7 XTALOUT, 8 VDD (power), 9 PIO1_8/CT16B1_CAP0 (io), 10 PIO0_2/SSEL0/CT16B0_CAP0 (io), 11 PIO2_7/CT32B0_MAT2/RXD (io), 12 PIO2_8/CT32B0_MAT3/TXD (io), 13 PIO2_1/~{DSR}/SCK1 (io), 14 PIO0_3 (io), 15 PIO0_4/SCL (io), 16 PIO0_5/SDA (io), 17 PIO1_9/CT16B1_MAT0/MOSI1 (io), 18 PIO3_4/CT16B0_CAP1/RXD (io), 19 PIO2_4/CT16B1_MAT1/SSEL1 (io), 20 PIO2_5/CT32B0_MAT0 (io), 21 PIO3_5/CT16B1_CAP1/TXD (io), 22 PIO0_6/SCK0 (io), 23 PIO0_7/~{CTS} (io), 24 PIO2_9/CT32B0_CAP0 (io), 25 PIO2_10 (io), 26 PIO2_2/~{DCD}/MISO1 (io), 27 PIO0_8/MISO0/CT16B0_MAT0 (io), 28 PIO0_9/MOSI0/CT16B0_MAT1 (io), 29 SWCLK/PIO0_10/SCK0/CT16B0_MAT2 (io), 30 PIO1_10/AD6/CT16B1_MAT1/MISO1 (io), 31 PIO2_11/SCK0/CT32B0_CAP1 (io), 32 R/PIO0_11/AD0/CT32B0_MAT3 (io), 33 R/PIO1_0/AD1/CT32B1_CAP0 (io), 34 R/PIO1_1/AD2/CT32B1_MAT0 (io), 35 R/PIO1_2/AD3/CT32B1_MAT1 (io), 36 PIO3_0/~{DTR}/CT16B0_MAT0/TXD (io), 37 PIO3_1/~{DSR}CT16B0_MAT1/RXD (io), 38 PIO2_3/~{RI}/MOSI1 (io), 39 SWDIO/PIO1_3/AD4/CT32B1_MAT2 (io), 40 PIO1_4/AD5/CT32B1_MAT3/WAKEUP (io), 41 VSS (power), 42 PIO1_11/AD7/CT32B1_CAP1 (io), 43 PIO3_2/~{DCD}/CT16B0_MAT2/SCK1 (io), 44 VDD (power), 45 PIO1_5/~{RTS}/CT32B0_CAP0 (io), 46 PIO1_6/RXD/CT32B0_MAT0 (io), 47 PIO1_7/TXD/CT32B0_MAT1 (io), 48 PIO3_3/~{RI}/CT16B0_CAP0 (io)

## LPC1113FHN33/201
designator U?
32-bit ARM Cortex-M0 MCU, LPC1100 Series, 24 kB Flash, 4 kB SRAM, 1 SPI, ADC, 32-Pin HVQFN; PartNumber: LPC1113FHN33/201; fmax: 50 MHz; SRAM: 4 kB; Flash: 24 kB; GPIOs: 28; UART: 1; PLL: Y; Timers: 4; ADC channels: 8; VDD (min): 1.8 V; VDD (typ): 3.3 V; VDD (max): 3.6 V; DatasheetVersion: Rev. 7.1, Apr-2012; PackageVersion: Jun-2009; PackageReference: SOT865-3; PackageDescription: HVQFN32: Plastic Thermal Enhanced Very Thin Quad Flat Package; No Leads; 32 Terminals; Body 7 x 7 x 0.85 mm; I2C: 1; SPI: 1; Code_JEDEC: MO-220; ComponentLink1Description: Manufacturer URL; ComponentLink1URL: http://www.nxp.com/; ComponentLink2Description: Datasheet; ComponentLink2URL: http://www.nxp.com/documents/data_sheet/LPC111X.pdf
footprint SOT865-3_V (QFN, 32-Leads, Body 7x7mm, Pitch 0.65mm, Thermal Pad 4.7x4.7mm, NXP Recommended)
footprint SOT865-3_N (QFN, 32-Leads, Body 7x7mm, Pitch 0.65mm, Thermal Pad 4.9x4.9mm, IPC Medium Density)
footprint SOT865-3_L (QFN, 32-Leads, Body 7x7mm, Pitch 0.65mm, Thermal Pad 4.9x4.9mm, IPC High Density)
footprint SOT865-3_M (QFN, 32-Leads, Body 7x7mm, Pitch 0.65mm, Thermal Pad 4.9x4.9mm, IPC Low Density)
pins: 1 PIO2_0/~{DTR} (io), 2 ~{RESET}/PIO0_0 (io), 3 PIO0_1/CLKOUT/CT32B0_MAT2 (io), 4 XTALIN, 5 XTALOUT, 6 VDD (power), 7 PIO1_8/CT16B1_CAP0 (io), 8 PIO0_2/SSEL0/CT16B0_CAP0 (io), 9 PIO0_3 (io), 10 PIO0_4/SCL (io), 11 PIO0_5/SDA (io), 12 PIO1_9/CT16B1_MAT0 (io), 13 PIO3_4 (io), 14 PIO3_5 (io), 15 PIO0_6/SCK0 (io), 16 PIO0_7/~{CTS} (io), 17 PIO0_8/MISO0/CT16B0_MAT0 (io), 18 PIO0_9/MOSI0/CT16B0_MAT1 (io), 19 SWCLK/PIO0_10/SCK0/CT16B0_MAT2 (io), 20 PIO1_10/AD6/CT16B1_MAT1 (io), 21 R/PIO0_11/AD0/CT32B0_MAT3 (io), 22 R/PIO1_0/AD1/CT32B1_CAP0 (io), 23 R/PIO1_1/AD2/CT32B1_MAT0 (io), 24 R/PIO1_2/AD3/CT32B1_MAT1 (io), 25 SWDIO/PIO1_3/AD4/CT32B1_MAT2 (io), 26 PIO1_4/AD5/CT32B1_MAT3/WAKEUP (io), 27 PIO1_11/AD7 (io), 28 PIO3_2 (io), 29 VDD (power), 30 PIO1_5/~{RTS}/CT32B0_CAP0 (io), 31 PIO1_6/RXD/CT32B0_MAT0 (io), 32 PIO1_7/TXD/CT32B0_MAT1 (io), 33 VSS (power)

## LPC1113FHN33/202
designator U?
32-bit ARM Cortex-M0 MCU, LPC1100L Series, 24 kB Flash, 4 kB SRAM, 1 SPI, ADC, 32-Pin HVQFN; PartNumber: LPC1113FHN33/202; fmax: 50 MHz; SRAM: 4 kB; Flash: 24 kB; GPIOs: 28; UART: 1; PLL: Y; Timers: 4; ADC channels: 8; VDD (min): 1.8 V; VDD (typ): 3.3 V; VDD (max): 3.6 V; DatasheetVersion: Rev. 7.1, Apr-2012; PackageVersion: Jun-2009; PackageReference: SOT865-3; PackageDescription: HVQFN32: Plastic Thermal Enhanced Very Thin Quad Flat Package; No Leads; 32 Terminals; Body 7 x 7 x 0.85 mm; I2C: 1; SPI: 1; Code_JEDEC: MO-220; ComponentLink1Description: Manufacturer URL; ComponentLink1URL: http://www.nxp.com/; ComponentLink2Description: Datasheet; ComponentLink2URL: http://www.nxp.com/documents/data_sheet/LPC111X.pdf
footprint SOT865-3_V (QFN, 32-Leads, Body 7x7mm, Pitch 0.65mm, Thermal Pad 4.7x4.7mm, NXP Recommended)
footprint SOT865-3_N (QFN, 32-Leads, Body 7x7mm, Pitch 0.65mm, Thermal Pad 4.9x4.9mm, IPC Medium Density)
footprint SOT865-3_L (QFN, 32-Leads, Body 7x7mm, Pitch 0.65mm, Thermal Pad 4.9x4.9mm, IPC High Density)
footprint SOT865-3_M (QFN, 32-Leads, Body 7x7mm, Pitch 0.65mm, Thermal Pad 4.9x4.9mm, IPC Low Density)
pins: 1 PIO2_0/~{DTR} (io), 2 ~{RESET}/PIO0_0 (io), 3 PIO0_1/CLKOUT/CT32B0_MAT2 (io), 4 XTALIN, 5 XTALOUT, 6 VDD (power), 7 PIO1_8/CT16B1_CAP0 (io), 8 PIO0_2/SSEL0/CT16B0_CAP0 (io), 9 PIO0_3 (io), 10 PIO0_4/SCL (io), 11 PIO0_5/SDA (io), 12 PIO1_9/CT16B1_MAT0 (io), 13 PIO3_4 (io), 14 PIO3_5 (io), 15 PIO0_6/SCK0 (io), 16 PIO0_7/~{CTS} (io), 17 PIO0_8/MISO0/CT16B0_MAT0 (io), 18 PIO0_9/MOSI0/CT16B0_MAT1 (io), 19 SWCLK/PIO0_10/SCK0/CT16B0_MAT2 (io), 20 PIO1_10/AD6/CT16B1_MAT1 (io), 21 R/PIO0_11/AD0/CT32B0_MAT3 (io), 22 R/PIO1_0/AD1/CT32B1_CAP0 (io), 23 R/PIO1_1/AD2/CT32B1_MAT0 (io), 24 R/PIO1_2/AD3/CT32B1_MAT1 (io), 25 SWDIO/PIO1_3/AD4/CT32B1_MAT2 (io), 26 PIO1_4/AD5/CT32B1_MAT3/WAKEUP (io), 27 PIO1_11/AD7 (io), 28 PIO3_2 (io), 29 VDD (power), 30 PIO1_5/~{RTS}/CT32B0_CAP0 (io), 31 PIO1_6/RXD/CT32B0_MAT0 (io), 32 PIO1_7/TXD/CT32B0_MAT1 (io), 33 VSS (power)

## LPC1113FHN33/203
designator U?
32-bit ARM Cortex-M0 MCU, LPC1100XL Series, 24 kB Flash, 4 kB SRAM, 2 SPI, ADC, 32-Pin HVQFN; PartNumber: LPC1113FHN33/203; fmax: 50 MHz; SRAM: 4 kB; Flash: 24 kB; GPIOs: 28; UART: 1; SPI: 2; PLL: Y; Timers: 4; ADC channels: 8; VDD (min): 1.8 V; VDD (typ): 3.3 V; VDD (max): 3.6 V; DatasheetVersion: Rev. 7.1, Apr-2012; PackageVersion: Jun-2009; PackageReference: SOT865-3; PackageDescription: HVQFN32: Plastic Thermal Enhanced Very Thin Quad Flat Package; No Leads; 32 Terminals; Body 7 x 7 x 0.85 mm; I2C: 1; Code_JEDEC: MO-220; ComponentLink1Description: Manufacturer URL; ComponentLink1URL: http://www.nxp.com/; ComponentLink2Description: Datasheet; ComponentLink2URL: http://www.nxp.com/documents/data_sheet/LPC111X.pdf
footprint SOT865-3_V (QFN, 32-Leads, Body 7x7mm, Pitch 0.65mm, Thermal Pad 4.7x4.7mm, NXP Recommended)
footprint SOT865-3_N (QFN, 32-Leads, Body 7x7mm, Pitch 0.65mm, Thermal Pad 4.9x4.9mm, IPC Medium Density)
footprint SOT865-3_L (QFN, 32-Leads, Body 7x7mm, Pitch 0.65mm, Thermal Pad 4.9x4.9mm, IPC High Density)
footprint SOT865-3_M (QFN, 32-Leads, Body 7x7mm, Pitch 0.65mm, Thermal Pad 4.9x4.9mm, IPC Low Density)
pins: 1 PIO2_0/~{DTR} (io), 2 ~{RESET}/PIO0_0 (io), 3 PIO0_1/CLKOUT/CT32B0_MAT2 (io), 4 XTALIN, 5 XTALOUT, 6 VDD (power), 7 PIO1_8/CT16B1_CAP0 (io), 8 PIO0_2/SSEL0/CT16B0_CAP0 (io), 9 PIO0_3 (io), 10 PIO0_4/SCL (io), 11 PIO0_5/SDA (io), 12 PIO1_9/CT16B1_MAT0/MOSI1 (io), 13 PIO3_4/CT16B0_CAP1/RXD (io), 14 PIO3_5/CT16B1_CAP1/TXD (io), 15 PIO0_6/SCK0 (io), 16 PIO0_7/~{CTS} (io), 17 PIO0_8/MISO0/CT16B0_MAT0 (io), 18 PIO0_9/MOSI0/CT16B0_MAT1 (io), 19 SWCLK/PIO0_10/SCK0/CT16B0_MAT2 (io), 20 PIO1_10/AD6/CT16B1_MAT1/MISO1 (io), 21 R/PIO0_11/AD0/CT32B0_MAT3 (io), 22 R/PIO1_0/AD1/CT32B1_CAP0 (io), 23 R/PIO1_1/AD2/CT32B1_MAT0 (io), 24 R/PIO1_2/AD3/CT32B1_MAT1 (io), 25 SWDIO/PIO1_3/AD4/CT32B1_MAT2 (io), 26 PIO1_4/AD5/CT32B1_MAT3/WAKEUP (io), 27 PIO1_11/AD7/CT32B1_CAP1 (io), 28 PIO3_2/CT16B0_MAT2/SCK1 (io), 29 VDD (power), 30 PIO1_5/~{RTS}/CT32B0_CAP0 (io), 31 PIO1_6/RXD/CT32B0_MAT0 (io), 32 PIO1_7/TXD/CT32B0_MAT1 (io), 33 VSS (power)

## LPC1113FHN33/301
designator U?
32-bit ARM Cortex-M0 MCU, LPC1100 Series, 24 kB Flash, 8 kB SRAM, 1 SPI, ADC, 32-Pin HVQFN; PartNumber: LPC1113FHN33/301; fmax: 50 MHz; SRAM: 8 kB; Flash: 24 kB; GPIOs: 28; UART: 1; PLL: Y; Timers: 4; ADC channels: 8; VDD (min): 1.8 V; VDD (typ): 3.3 V; VDD (max): 3.6 V; DatasheetVersion: Rev. 7.1, Apr-2012; PackageVersion: Jun-2009; PackageReference: SOT865-3; PackageDescription: HVQFN32: Plastic Thermal Enhanced Very Thin Quad Flat Package; No Leads; 32 Terminals; Body 7 x 7 x 0.85 mm; I2C: 1; SPI: 1; Code_JEDEC: MO-220; ComponentLink1Description: Manufacturer URL; ComponentLink1URL: http://www.nxp.com/; ComponentLink2Description: Datasheet; ComponentLink2URL: http://www.nxp.com/documents/data_sheet/LPC111X.pdf
footprint SOT865-3_V (QFN, 32-Leads, Body 7x7mm, Pitch 0.65mm, Thermal Pad 4.7x4.7mm, NXP Recommended)
footprint SOT865-3_N (QFN, 32-Leads, Body 7x7mm, Pitch 0.65mm, Thermal Pad 4.9x4.9mm, IPC Medium Density)
footprint SOT865-3_L (QFN, 32-Leads, Body 7x7mm, Pitch 0.65mm, Thermal Pad 4.9x4.9mm, IPC High Density)
footprint SOT865-3_M (QFN, 32-Leads, Body 7x7mm, Pitch 0.65mm, Thermal Pad 4.9x4.9mm, IPC Low Density)
pins: 1 PIO2_0/~{DTR} (io), 2 ~{RESET}/PIO0_0 (io), 3 PIO0_1/CLKOUT/CT32B0_MAT2 (io), 4 XTALIN, 5 XTALOUT, 6 VDD (power), 7 PIO1_8/CT16B1_CAP0 (io), 8 PIO0_2/SSEL0/CT16B0_CAP0 (io), 9 PIO0_3 (io), 10 PIO0_4/SCL (io), 11 PIO0_5/SDA (io), 12 PIO1_9/CT16B1_MAT0 (io), 13 PIO3_4 (io), 14 PIO3_5 (io), 15 PIO0_6/SCK0 (io), 16 PIO0_7/~{CTS} (io), 17 PIO0_8/MISO0/CT16B0_MAT0 (io), 18 PIO0_9/MOSI0/CT16B0_MAT1 (io), 19 SWCLK/PIO0_10/SCK0/CT16B0_MAT2 (io), 20 PIO1_10/AD6/CT16B1_MAT1 (io), 21 R/PIO0_11/AD0/CT32B0_MAT3 (io), 22 R/PIO1_0/AD1/CT32B1_CAP0 (io), 23 R/PIO1_1/AD2/CT32B1_MAT0 (io), 24 R/PIO1_2/AD3/CT32B1_MAT1 (io), 25 SWDIO/PIO1_3/AD4/CT32B1_MAT2 (io), 26 PIO1_4/AD5/CT32B1_MAT3/WAKEUP (io), 27 PIO1_11/AD7 (io), 28 PIO3_2 (io), 29 VDD (power), 30 PIO1_5/~{RTS}/CT32B0_CAP0 (io), 31 PIO1_6/RXD/CT32B0_MAT0 (io), 32 PIO1_7/TXD/CT32B0_MAT1 (io), 33 VSS (power)

## LPC1113FHN33/302
designator U?
32-bit ARM Cortex-M0 MCU, LPC1100L Series, 24 kB Flash, 8 kB SRAM, 1 SPI, ADC, 32-Pin HVQFN; PartNumber: LPC1113FHN33/302; fmax: 50 MHz; SRAM: 8 kB; Flash: 24 kB; GPIOs: 28; UART: 1; PLL: Y; Timers: 4; ADC channels: 8; VDD (min): 1.8 V; VDD (typ): 3.3 V; VDD (max): 3.6 V; DatasheetVersion: Rev. 7.1, Apr-2012; PackageVersion: Jun-2009; PackageReference: SOT865-3; PackageDescription: HVQFN32: Plastic Thermal Enhanced Very Thin Quad Flat Package; No Leads; 32 Terminals; Body 7 x 7 x 0.85 mm; I2C: 1; SPI: 1; Code_JEDEC: MO-220; ComponentLink1Description: Manufacturer URL; ComponentLink1URL: http://www.nxp.com/; ComponentLink2Description: Datasheet; ComponentLink2URL: http://www.nxp.com/documents/data_sheet/LPC111X.pdf
footprint SOT865-3_V (QFN, 32-Leads, Body 7x7mm, Pitch 0.65mm, Thermal Pad 4.7x4.7mm, NXP Recommended)
footprint SOT865-3_N (QFN, 32-Leads, Body 7x7mm, Pitch 0.65mm, Thermal Pad 4.9x4.9mm, IPC Medium Density)
footprint SOT865-3_L (QFN, 32-Leads, Body 7x7mm, Pitch 0.65mm, Thermal Pad 4.9x4.9mm, IPC High Density)
footprint SOT865-3_M (QFN, 32-Leads, Body 7x7mm, Pitch 0.65mm, Thermal Pad 4.9x4.9mm, IPC Low Density)
pins: 1 PIO2_0/~{DTR} (io), 2 ~{RESET}/PIO0_0 (io), 3 PIO0_1/CLKOUT/CT32B0_MAT2 (io), 4 XTALIN, 5 XTALOUT, 6 VDD (power), 7 PIO1_8/CT16B1_CAP0 (io), 8 PIO0_2/SSEL0/CT16B0_CAP0 (io), 9 PIO0_3 (io), 10 PIO0_4/SCL (io), 11 PIO0_5/SDA (io), 12 PIO1_9/CT16B1_MAT0 (io), 13 PIO3_4 (io), 14 PIO3_5 (io), 15 PIO0_6/SCK0 (io), 16 PIO0_7/~{CTS} (io), 17 PIO0_8/MISO0/CT16B0_MAT0 (io), 18 PIO0_9/MOSI0/CT16B0_MAT1 (io), 19 SWCLK/PIO0_10/SCK0/CT16B0_MAT2 (io), 20 PIO1_10/AD6/CT16B1_MAT1 (io), 21 R/PIO0_11/AD0/CT32B0_MAT3 (io), 22 R/PIO1_0/AD1/CT32B1_CAP0 (io), 23 R/PIO1_1/AD2/CT32B1_MAT0 (io), 24 R/PIO1_2/AD3/CT32B1_MAT1 (io), 25 SWDIO/PIO1_3/AD4/CT32B1_MAT2 (io), 26 PIO1_4/AD5/CT32B1_MAT3/WAKEUP (io), 27 PIO1_11/AD7 (io), 28 PIO3_2 (io), 29 VDD (power), 30 PIO1_5/~{RTS}/CT32B0_CAP0 (io), 31 PIO1_6/RXD/CT32B0_MAT0 (io), 32 PIO1_7/TXD/CT32B0_MAT1 (io), 33 VSS (power)

## LPC1113FHN33/303
designator U?
32-bit ARM Cortex-M0 MCU, LPC1100XL Series, 24 kB Flash, 8 kB SRAM, 2 SPI, ADC, 32-Pin HVQFN; PartNumber: LPC1113FHN33/303; fmax: 50 MHz; SRAM: 8 kB; Flash: 24 kB; GPIOs: 28; UART: 1; SPI: 2; PLL: Y; Timers: 4; ADC channels: 8; VDD (min): 1.8 V; VDD (typ): 3.3 V; VDD (max): 3.6 V; DatasheetVersion: Rev. 7.1, Apr-2012; PackageVersion: Jun-2009; PackageReference: SOT865-3; PackageDescription: HVQFN32: Plastic Thermal Enhanced Very Thin Quad Flat Package; No Leads; 32 Terminals; Body 7 x 7 x 0.85 mm; I2C: 1; Code_JEDEC: MO-220; ComponentLink1Description: Manufacturer URL; ComponentLink1URL: http://www.nxp.com/; ComponentLink2Description: Datasheet; ComponentLink2URL: http://www.nxp.com/documents/data_sheet/LPC111X.pdf
footprint SOT865-3_V (QFN, 32-Leads, Body 7x7mm, Pitch 0.65mm, Thermal Pad 4.7x4.7mm, NXP Recommended)
footprint SOT865-3_N (QFN, 32-Leads, Body 7x7mm, Pitch 0.65mm, Thermal Pad 4.9x4.9mm, IPC Medium Density)
footprint SOT865-3_L (QFN, 32-Leads, Body 7x7mm, Pitch 0.65mm, Thermal Pad 4.9x4.9mm, IPC High Density)
footprint SOT865-3_M (QFN, 32-Leads, Body 7x7mm, Pitch 0.65mm, Thermal Pad 4.9x4.9mm, IPC Low Density)
pins: 1 PIO2_0/~{DTR} (io), 2 ~{RESET}/PIO0_0 (io), 3 PIO0_1/CLKOUT/CT32B0_MAT2 (io), 4 XTALIN, 5 XTALOUT, 6 VDD (power), 7 PIO1_8/CT16B1_CAP0 (io), 8 PIO0_2/SSEL0/CT16B0_CAP0 (io), 9 PIO0_3 (io), 10 PIO0_4/SCL (io), 11 PIO0_5/SDA (io), 12 PIO1_9/CT16B1_MAT0/MOSI1 (io), 13 PIO3_4/CT16B0_CAP1/RXD (io), 14 PIO3_5/CT16B1_CAP1/TXD (io), 15 PIO0_6/SCK0 (io), 16 PIO0_7/~{CTS} (io), 17 PIO0_8/MISO0/CT16B0_MAT0 (io), 18 PIO0_9/MOSI0/CT16B0_MAT1 (io), 19 SWCLK/PIO0_10/SCK0/CT16B0_MAT2 (io), 20 PIO1_10/AD6/CT16B1_MAT1/MISO1 (io), 21 R/PIO0_11/AD0/CT32B0_MAT3 (io), 22 R/PIO1_0/AD1/CT32B1_CAP0 (io), 23 R/PIO1_1/AD2/CT32B1_MAT0 (io), 24 R/PIO1_2/AD3/CT32B1_MAT1 (io), 25 SWDIO/PIO1_3/AD4/CT32B1_MAT2 (io), 26 PIO1_4/AD5/CT32B1_MAT3/WAKEUP (io), 27 PIO1_11/AD7/CT32B1_CAP1 (io), 28 PIO3_2/CT16B0_MAT2/SCK1 (io), 29 VDD (power), 30 PIO1_5/~{RTS}/CT32B0_CAP0 (io), 31 PIO1_6/RXD/CT32B0_MAT0 (io), 32 PIO1_7/TXD/CT32B0_MAT1 (io), 33 VSS (power)

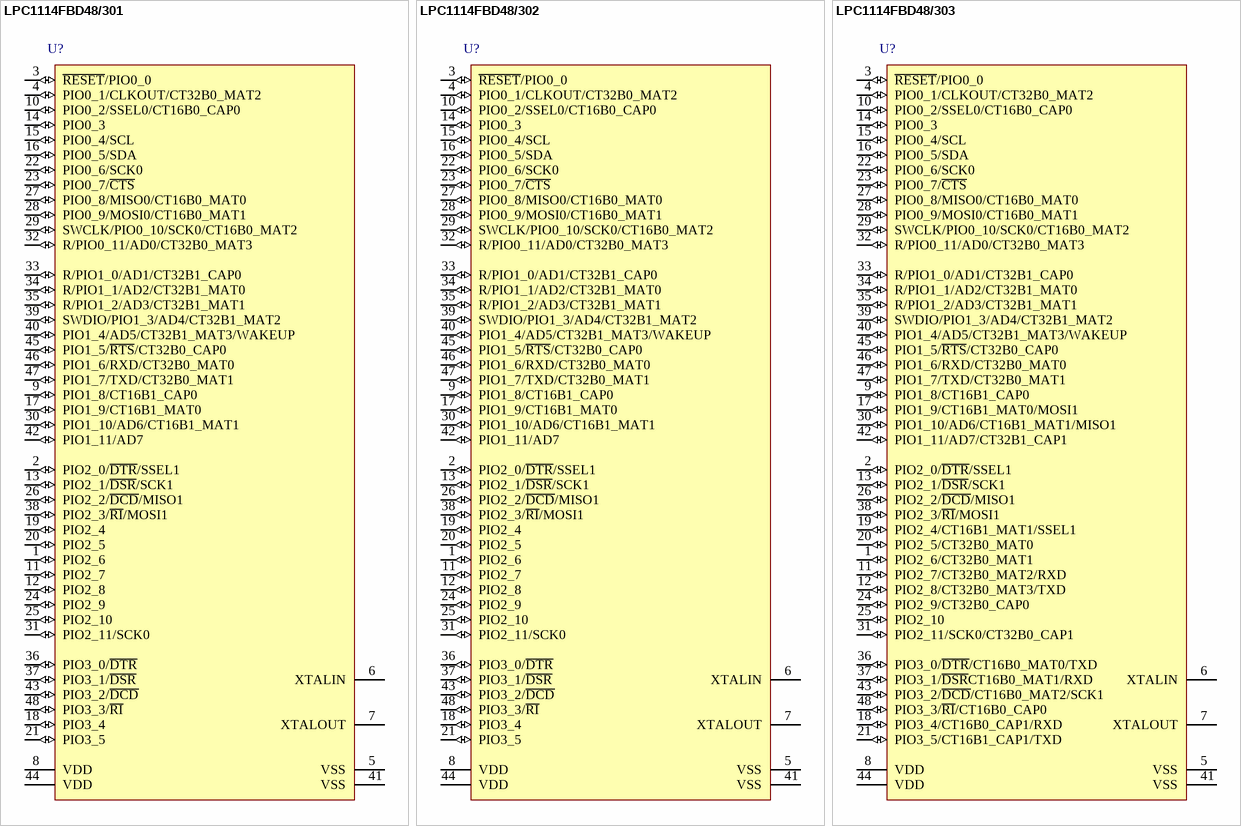
[diagram p10: symbols LPC1114FBD48/301 to LPC1114FBD48/303]

## LPC1114FBD48/301
designator U?
32-bit ARM Cortex-M0 MCU, LPC1100 Series, 32 kB Flash, 8 kB SRAM, 2 SPI, ADC, 48-Pin LQFP; PartNumber: LPC1114FBD48/301; fmax: 50 MHz; SRAM: 8 kB; Flash: 32 kB; GPIOs: 42; UART: 1; SPI: 2; PLL: Y; Timers: 4; ADC channels: 8; VDD (min): 1.8 V; VDD (typ): 3.3 V; VDD (max): 3.6 V; Code_IEC: 136E05; DatasheetVersion: Rev. 7.1, Apr-2012; PackageVersion: Feb-2003; PackageReference: SOT313-2; PackageDescription: LQFP48: Plastic Low Profile Quad Flat Package; 48 Leads; Body 7 x 7 x 1.4 mm; I2C: 1; Code_JEDEC: MS-026; ComponentLink1Description: Manufacturer URL; ComponentLink1URL: http://www.nxp.com/; ComponentLink2Description: Datasheet; ComponentLink2URL: http://www.nxp.com/documents/data_sheet/LPC111X.pdf
footprint SOT313-2_V (Thin QFP, 48-Leads, Body 7x7mm, Pitch 0.5mm, NXP Recommended)
pins: 1 PIO2_6 (io), 2 PIO2_0/~{DTR}/SSEL1 (io), 3 ~{RESET}/PIO0_0 (io), 4 PIO0_1/CLKOUT/CT32B0_MAT2 (io), 5 VSS (power), 6 XTALIN, 7 XTALOUT, 8 VDD (power), 9 PIO1_8/CT16B1_CAP0 (io), 10 PIO0_2/SSEL0/CT16B0_CAP0 (io), 11 PIO2_7 (io), 12 PIO2_8 (io), 13 PIO2_1/~{DSR}/SCK1 (io), 14 PIO0_3 (io), 15 PIO0_4/SCL (io), 16 PIO0_5/SDA (io), 17 PIO1_9/CT16B1_MAT0 (io), 18 PIO3_4 (io), 19 PIO2_4 (io), 20 PIO2_5 (io), 21 PIO3_5 (io), 22 PIO0_6/SCK0 (io), 23 PIO0_7/~{CTS} (io), 24 PIO2_9 (io), 25 PIO2_10 (io), 26 PIO2_2/~{DCD}/MISO1 (io), 27 PIO0_8/MISO0/CT16B0_MAT0 (io), 28 PIO0_9/MOSI0/CT16B0_MAT1 (io), 29 SWCLK/PIO0_10/SCK0/CT16B0_MAT2 (io), 30 PIO1_10/AD6/CT16B1_MAT1 (io), 31 PIO2_11/SCK0 (io), 32 R/PIO0_11/AD0/CT32B0_MAT3 (io), 33 R/PIO1_0/AD1/CT32B1_CAP0 (io), 34 R/PIO1_1/AD2/CT32B1_MAT0 (io), 35 R/PIO1_2/AD3/CT32B1_MAT1 (io), 36 PIO3_0/~{DTR} (io), 37 PIO3_1/~{DSR} (io), 38 PIO2_3/~{RI}/MOSI1 (io), 39 SWDIO/PIO1_3/AD4/CT32B1_MAT2 (io), 40 PIO1_4/AD5/CT32B1_MAT3/WAKEUP (io), 41 VSS (power), 42 PIO1_11/AD7 (io), 43 PIO3_2/~{DCD} (io), 44 VDD (power), 45 PIO1_5/~{RTS}/CT32B0_CAP0 (io), 46 PIO1_6/RXD/CT32B0_MAT0 (io), 47 PIO1_7/TXD/CT32B0_MAT1 (io), 48 PIO3_3/~{RI} (io)

## LPC1114FBD48/302
designator U?
32-bit ARM Cortex-M0 MCU, LPC1100L Series, 32 kB Flash, 8 kB SRAM, 2 SPI, ADC, 48-Pin LQFP; PartNumber: LPC1114FBD48/302; fmax: 50 MHz; SRAM: 8 kB; Flash: 32 kB; GPIOs: 42; UART: 1; SPI: 2; PLL: Y; Timers: 4; ADC channels: 8; VDD (min): 1.8 V; VDD (typ): 3.3 V; VDD (max): 3.6 V; Code_IEC: 136E05; DatasheetVersion: Rev. 7.1, Apr-2012; PackageVersion: Feb-2003; PackageReference: SOT313-2; PackageDescription: LQFP48: Plastic Low Profile Quad Flat Package; 48 Leads; Body 7 x 7 x 1.4 mm; I2C: 1; Code_JEDEC: MS-026; ComponentLink1Description: Manufacturer URL; ComponentLink1URL: http://www.nxp.com/; ComponentLink2Description: Datasheet; ComponentLink2URL: http://www.nxp.com/documents/data_sheet/LPC111X.pdf
footprint SOT313-2_V (Thin QFP, 48-Leads, Body 7x7mm, Pitch 0.5mm, NXP Recommended)
pins: 1 PIO2_6 (io), 2 PIO2_0/~{DTR}/SSEL1 (io), 3 ~{RESET}/PIO0_0 (io), 4 PIO0_1/CLKOUT/CT32B0_MAT2 (io), 5 VSS (power), 6 XTALIN, 7 XTALOUT, 8 VDD (power), 9 PIO1_8/CT16B1_CAP0 (io), 10 PIO0_2/SSEL0/CT16B0_CAP0 (io), 11 PIO2_7 (io), 12 PIO2_8 (io), 13 PIO2_1/~{DSR}/SCK1 (io), 14 PIO0_3 (io), 15 PIO0_4/SCL (io), 16 PIO0_5/SDA (io), 17 PIO1_9/CT16B1_MAT0 (io), 18 PIO3_4 (io), 19 PIO2_4 (io), 20 PIO2_5 (io), 21 PIO3_5 (io), 22 PIO0_6/SCK0 (io), 23 PIO0_7/~{CTS} (io), 24 PIO2_9 (io), 25 PIO2_10 (io), 26 PIO2_2/~{DCD}/MISO1 (io), 27 PIO0_8/MISO0/CT16B0_MAT0 (io), 28 PIO0_9/MOSI0/CT16B0_MAT1 (io), 29 SWCLK/PIO0_10/SCK0/CT16B0_MAT2 (io), 30 PIO1_10/AD6/CT16B1_MAT1 (io), 31 PIO2_11/SCK0 (io), 32 R/PIO0_11/AD0/CT32B0_MAT3 (io), 33 R/PIO1_0/AD1/CT32B1_CAP0 (io), 34 R/PIO1_1/AD2/CT32B1_MAT0 (io), 35 R/PIO1_2/AD3/CT32B1_MAT1 (io), 36 PIO3_0/~{DTR} (io), 37 PIO3_1/~{DSR} (io), 38 PIO2_3/~{RI}/MOSI1 (io), 39 SWDIO/PIO1_3/AD4/CT32B1_MAT2 (io), 40 PIO1_4/AD5/CT32B1_MAT3/WAKEUP (io), 41 VSS (power), 42 PIO1_11/AD7 (io), 43 PIO3_2/~{DCD} (io), 44 VDD (power), 45 PIO1_5/~{RTS}/CT32B0_CAP0 (io), 46 PIO1_6/RXD/CT32B0_MAT0 (io), 47 PIO1_7/TXD/CT32B0_MAT1 (io), 48 PIO3_3/~{RI} (io)

## LPC1114FBD48/303
designator U?
32-bit ARM Cortex-M0 MCU, LPC1100XL Series, 32 kB Flash, 8 kB SRAM, 2 SPI, ADC, 48-Pin LQFP; PartNumber: LPC1114FBD48/303; fmax: 50 MHz; SRAM: 8 kB; Flash: 32 kB; GPIOs: 42; UART: 1; SPI: 2; PLL: Y; Timers: 4; ADC channels: 8; VDD (min): 1.8 V; VDD (typ): 3.3 V; VDD (max): 3.6 V; Code_IEC: 136E05; DatasheetVersion: Rev. 7.1, Apr-2012; PackageVersion: Feb-2003; PackageReference: SOT313-2; PackageDescription: LQFP48: Plastic Low Profile Quad Flat Package; 48 Leads; Body 7 x 7 x 1.4 mm; I2C: 1; Code_JEDEC: MS-026; ComponentLink1Description: Manufacturer URL; ComponentLink1URL: http://www.nxp.com/; ComponentLink2Description: Datasheet; ComponentLink2URL: http://www.nxp.com/documents/data_sheet/LPC111X.pdf
footprint SOT313-2_V (Thin QFP, 48-Leads, Body 7x7mm, Pitch 0.5mm, NXP Recommended)
pins: 1 PIO2_6/CT32B0_MAT1 (io), 2 PIO2_0/~{DTR}/SSEL1 (io), 3 ~{RESET}/PIO0_0 (io), 4 PIO0_1/CLKOUT/CT32B0_MAT2 (io), 5 VSS (power), 6 XTALIN, 7 XTALOUT, 8 VDD (power), 9 PIO1_8/CT16B1_CAP0 (io), 10 PIO0_2/SSEL0/CT16B0_CAP0 (io), 11 PIO2_7/CT32B0_MAT2/RXD (io), 12 PIO2_8/CT32B0_MAT3/TXD (io), 13 PIO2_1/~{DSR}/SCK1 (io), 14 PIO0_3 (io), 15 PIO0_4/SCL (io), 16 PIO0_5/SDA (io), 17 PIO1_9/CT16B1_MAT0/MOSI1 (io), 18 PIO3_4/CT16B0_CAP1/RXD (io), 19 PIO2_4/CT16B1_MAT1/SSEL1 (io), 20 PIO2_5/CT32B0_MAT0 (io), 21 PIO3_5/CT16B1_CAP1/TXD (io), 22 PIO0_6/SCK0 (io), 23 PIO0_7/~{CTS} (io), 24 PIO2_9/CT32B0_CAP0 (io), 25 PIO2_10 (io), 26 PIO2_2/~{DCD}/MISO1 (io), 27 PIO0_8/MISO0/CT16B0_MAT0 (io), 28 PIO0_9/MOSI0/CT16B0_MAT1 (io), 29 SWCLK/PIO0_10/SCK0/CT16B0_MAT2 (io), 30 PIO1_10/AD6/CT16B1_MAT1/MISO1 (io), 31 PIO2_11/SCK0/CT32B0_CAP1 (io), 32 R/PIO0_11/AD0/CT32B0_MAT3 (io), 33 R/PIO1_0/AD1/CT32B1_CAP0 (io), 34 R/PIO1_1/AD2/CT32B1_MAT0 (io), 35 R/PIO1_2/AD3/CT32B1_MAT1 (io), 36 PIO3_0/~{DTR}/CT16B0_MAT0/TXD (io), 37 PIO3_1/~{DSR}CT16B0_MAT1/RXD (io), 38 PIO2_3/~{RI}/MOSI1 (io), 39 SWDIO/PIO1_3/AD4/CT32B1_MAT2 (io), 40 PIO1_4/AD5/CT32B1_MAT3/WAKEUP (io), 41 VSS (power), 42 PIO1_11/AD7/CT32B1_CAP1 (io), 43 PIO3_2/~{DCD}/CT16B0_MAT2/SCK1 (io), 44 VDD (power), 45 PIO1_5/~{RTS}/CT32B0_CAP0 (io), 46 PIO1_6/RXD/CT32B0_MAT0 (io), 47 PIO1_7/TXD/CT32B0_MAT1 (io), 48 PIO3_3/~{RI}/CT16B0_CAP0 (io)

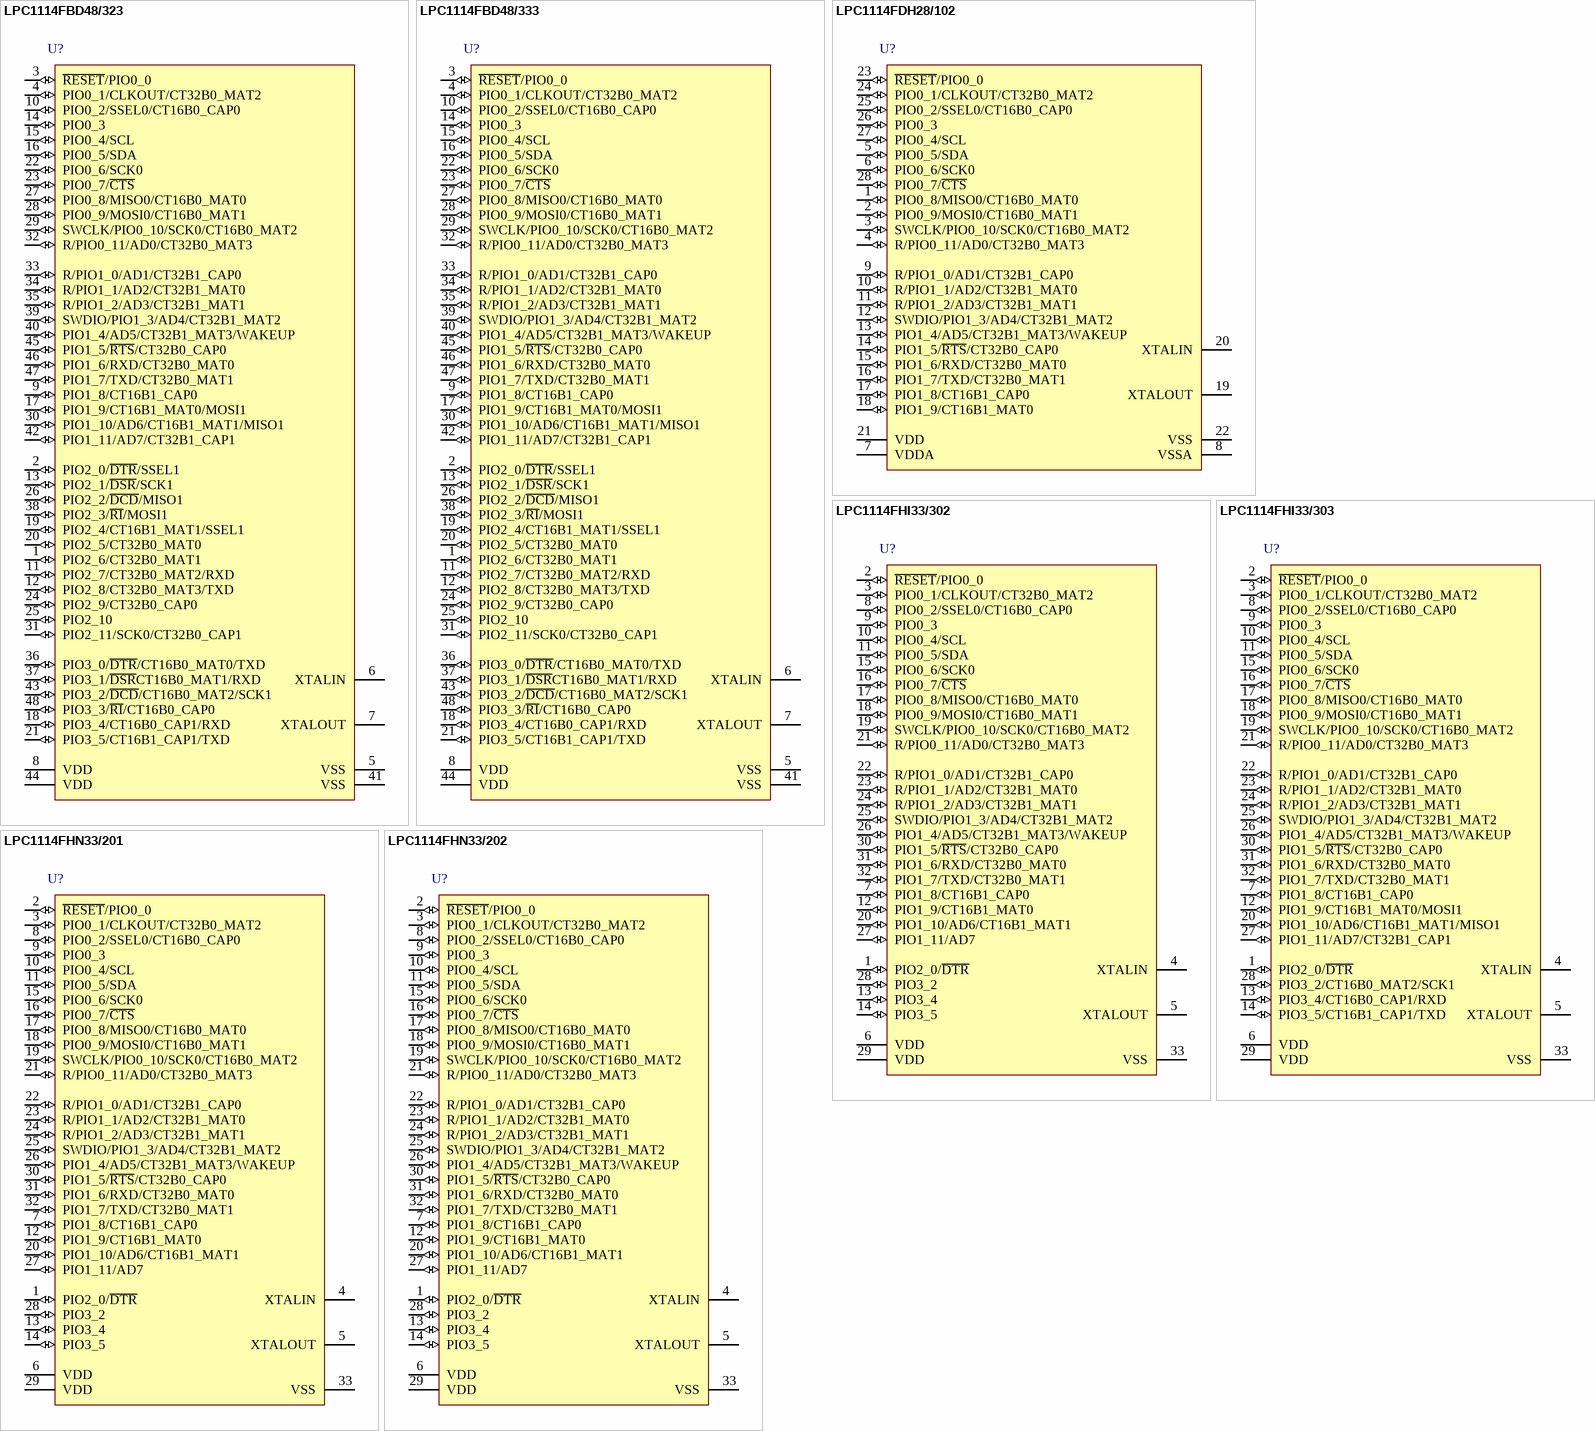
[diagram p11: symbols LPC1114FBD48/323 to LPC1114FHN33/202]

## LPC1114FBD48/323
designator U?
32-bit ARM Cortex-M0 MCU, LPC1100XL Series, 32 kB Flash, 8 kB SRAM, 2 SPI, ADC, 48-Pin LQFP; PartNumber: LPC1114FBD48/323; fmax: 50 MHz; SRAM: 8 kB; Flash: 32 kB; GPIOs: 42; UART: 1; SPI: 2; PLL: Y; Timers: 4; ADC channels: 8; VDD (min): 1.8 V; VDD (typ): 3.3 V; VDD (max): 3.6 V; Code_IEC: 136E05; DatasheetVersion: Rev. 7.1, Apr-2012; PackageVersion: Feb-2003; PackageReference: SOT313-2; PackageDescription: LQFP48: Plastic Low Profile Quad Flat Package; 48 Leads; Body 7 x 7 x 1.4 mm; I2C: 1; Code_JEDEC: MS-026; ComponentLink1Description: Manufacturer URL; ComponentLink1URL: http://www.nxp.com/; ComponentLink2Description: Datasheet; ComponentLink2URL: http://www.nxp.com/documents/data_sheet/LPC111X.pdf
footprint SOT313-2_V (Thin QFP, 48-Leads, Body 7x7mm, Pitch 0.5mm, NXP Recommended)
pins: 1 PIO2_6/CT32B0_MAT1 (io), 2 PIO2_0/~{DTR}/SSEL1 (io), 3 ~{RESET}/PIO0_0 (io), 4 PIO0_1/CLKOUT/CT32B0_MAT2 (io), 5 VSS (power), 6 XTALIN, 7 XTALOUT, 8 VDD (power), 9 PIO1_8/CT16B1_CAP0 (io), 10 PIO0_2/SSEL0/CT16B0_CAP0 (io), 11 PIO2_7/CT32B0_MAT2/RXD (io), 12 PIO2_8/CT32B0_MAT3/TXD (io), 13 PIO2_1/~{DSR}/SCK1 (io), 14 PIO0_3 (io), 15 PIO0_4/SCL (io), 16 PIO0_5/SDA (io), 17 PIO1_9/CT16B1_MAT0/MOSI1 (io), 18 PIO3_4/CT16B0_CAP1/RXD (io), 19 PIO2_4/CT16B1_MAT1/SSEL1 (io), 20 PIO2_5/CT32B0_MAT0 (io), 21 PIO3_5/CT16B1_CAP1/TXD (io), 22 PIO0_6/SCK0 (io), 23 PIO0_7/~{CTS} (io), 24 PIO2_9/CT32B0_CAP0 (io), 25 PIO2_10 (io), 26 PIO2_2/~{DCD}/MISO1 (io), 27 PIO0_8/MISO0/CT16B0_MAT0 (io), 28 PIO0_9/MOSI0/CT16B0_MAT1 (io), 29 SWCLK/PIO0_10/SCK0/CT16B0_MAT2 (io), 30 PIO1_10/AD6/CT16B1_MAT1/MISO1 (io), 31 PIO2_11/SCK0/CT32B0_CAP1 (io), 32 R/PIO0_11/AD0/CT32B0_MAT3 (io), 33 R/PIO1_0/AD1/CT32B1_CAP0 (io), 34 R/PIO1_1/AD2/CT32B1_MAT0 (io), 35 R/PIO1_2/AD3/CT32B1_MAT1 (io), 36 PIO3_0/~{DTR}/CT16B0_MAT0/TXD (io), 37 PIO3_1/~{DSR}CT16B0_MAT1/RXD (io), 38 PIO2_3/~{RI}/MOSI1 (io), 39 SWDIO/PIO1_3/AD4/CT32B1_MAT2 (io), 40 PIO1_4/AD5/CT32B1_MAT3/WAKEUP (io), 41 VSS (power), 42 PIO1_11/AD7/CT32B1_CAP1 (io), 43 PIO3_2/~{DCD}/CT16B0_MAT2/SCK1 (io), 44 VDD (power), 45 PIO1_5/~{RTS}/CT32B0_CAP0 (io), 46 PIO1_6/RXD/CT32B0_MAT0 (io), 47 PIO1_7/TXD/CT32B0_MAT1 (io), 48 PIO3_3/~{RI}/CT16B0_CAP0 (io)

## LPC1114FBD48/333
designator U?
32-bit ARM Cortex-M0 MCU, LPC1100XL Series, 32 kB Flash, 8 kB SRAM, 2 SPI, ADC, 48-Pin LQFP; PartNumber: LPC1114FBD48/333; fmax: 50 MHz; SRAM: 8 kB; Flash: 32 kB; GPIOs: 42; UART: 1; SPI: 2; PLL: Y; Timers: 4; ADC channels: 8; VDD (min): 1.8 V; VDD (typ): 3.3 V; VDD (max): 3.6 V; Code_IEC: 136E05; DatasheetVersion: Rev. 7.1, Apr-2012; PackageVersion: Feb-2003; PackageReference: SOT313-2; PackageDescription: LQFP48: Plastic Low Profile Quad Flat Package; 48 Leads; Body 7 x 7 x 1.4 mm; I2C: 1; Code_JEDEC: MS-026; ComponentLink1Description: Manufacturer URL; ComponentLink1URL: http://www.nxp.com/; ComponentLink2Description: Datasheet; ComponentLink2URL: http://www.nxp.com/documents/data_sheet/LPC111X.pdf
footprint SOT313-2_V (Thin QFP, 48-Leads, Body 7x7mm, Pitch 0.5mm, NXP Recommended)
pins: 1 PIO2_6/CT32B0_MAT1 (io), 2 PIO2_0/~{DTR}/SSEL1 (io), 3 ~{RESET}/PIO0_0 (io), 4 PIO0_1/CLKOUT/CT32B0_MAT2 (io), 5 VSS (power), 6 XTALIN, 7 XTALOUT, 8 VDD (power), 9 PIO1_8/CT16B1_CAP0 (io), 10 PIO0_2/SSEL0/CT16B0_CAP0 (io), 11 PIO2_7/CT32B0_MAT2/RXD (io), 12 PIO2_8/CT32B0_MAT3/TXD (io), 13 PIO2_1/~{DSR}/SCK1 (io), 14 PIO0_3 (io), 15 PIO0_4/SCL (io), 16 PIO0_5/SDA (io), 17 PIO1_9/CT16B1_MAT0/MOSI1 (io), 18 PIO3_4/CT16B0_CAP1/RXD (io), 19 PIO2_4/CT16B1_MAT1/SSEL1 (io), 20 PIO2_5/CT32B0_MAT0 (io), 21 PIO3_5/CT16B1_CAP1/TXD (io), 22 PIO0_6/SCK0 (io), 23 PIO0_7/~{CTS} (io), 24 PIO2_9/CT32B0_CAP0 (io), 25 PIO2_10 (io), 26 PIO2_2/~{DCD}/MISO1 (io), 27 PIO0_8/MISO0/CT16B0_MAT0 (io), 28 PIO0_9/MOSI0/CT16B0_MAT1 (io), 29 SWCLK/PIO0_10/SCK0/CT16B0_MAT2 (io), 30 PIO1_10/AD6/CT16B1_MAT1/MISO1 (io), 31 PIO2_11/SCK0/CT32B0_CAP1 (io), 32 R/PIO0_11/AD0/CT32B0_MAT3 (io), 33 R/PIO1_0/AD1/CT32B1_CAP0 (io), 34 R/PIO1_1/AD2/CT32B1_MAT0 (io), 35 R/PIO1_2/AD3/CT32B1_MAT1 (io), 36 PIO3_0/~{DTR}/CT16B0_MAT0/TXD (io), 37 PIO3_1/~{DSR}CT16B0_MAT1/RXD (io), 38 PIO2_3/~{RI}/MOSI1 (io), 39 SWDIO/PIO1_3/AD4/CT32B1_MAT2 (io), 40 PIO1_4/AD5/CT32B1_MAT3/WAKEUP (io), 41 VSS (power), 42 PIO1_11/AD7/CT32B1_CAP1 (io), 43 PIO3_2/~{DCD}/CT16B0_MAT2/SCK1 (io), 44 VDD (power), 45 PIO1_5/~{RTS}/CT32B0_CAP0 (io), 46 PIO1_6/RXD/CT32B0_MAT0 (io), 47 PIO1_7/TXD/CT32B0_MAT1 (io), 48 PIO3_3/~{RI}/CT16B0_CAP0 (io)

## LPC1114FDH28/102
designator U?
32-bit ARM Cortex-M0 MCU, LPC1100L Series, 32 kB Flash, 4 kB SRAM, 1 SPI, ADC, 28-Pin TSSOP; PartNumber: LPC1114FDH28/102; fmax: 50 MHz; SRAM: 4 kB; Flash: 32 kB; GPIOs: 22; UART: 1; PLL: Y; Timers: 4; ADC channels: 6; VDD (min): 1.8 V; VDD (typ): 3.3 V; VDD (max): 3.6 V; DatasheetVersion: Rev. 7.1, Apr-2012; PackageVersion: Feb-2003; PackageReference: SOT361-1; PackageDescription: TSSOP28: Plastic Thin Shrink Small Outline Package; 28 Leads; Body Width 4.4 mm; I2C: 1; SPI: 1; ComponentLink1Description: Manufacturer URL; ComponentLink1URL: http://www.nxp.com/; ComponentLink2Description: Datasheet; ComponentLink2URL: http://www.nxp.com/documents/data_sheet/LPC111X.pdf
footprint SOT361-1_V (SOP, 28-Leads, Body 9.7x4.4mm, Pitch 0.65mm, NXP Recommended)
pins: 1 PIO0_8/MISO0/CT16B0_MAT0 (io), 2 PIO0_9/MOSI0/CT16B0_MAT1 (io), 3 SWCLK/PIO0_10/SCK0/CT16B0_MAT2 (io), 4 R/PIO0_11/AD0/CT32B0_MAT3 (io), 5 PIO0_5/SDA (io), 6 PIO0_6/SCK0 (io), 7 VDDA (power), 8 VSSA (power), 9 R/PIO1_0/AD1/CT32B1_CAP0 (io), 10 R/PIO1_1/AD2/CT32B1_MAT0 (io), 11 R/PIO1_2/AD3/CT32B1_MAT1 (io), 12 SWDIO/PIO1_3/AD4/CT32B1_MAT2 (io), 13 PIO1_4/AD5/CT32B1_MAT3/WAKEUP (io), 14 PIO1_5/~{RTS}/CT32B0_CAP0 (io), 15 PIO1_6/RXD/CT32B0_MAT0 (io), 16 PIO1_7/TXD/CT32B0_MAT1 (io), 17 PIO1_8/CT16B1_CAP0 (io), 18 PIO1_9/CT16B1_MAT0 (io), 19 XTALOUT, 20 XTALIN, 21 VDD (power), 22 VSS (power), 23 ~{RESET}/PIO0_0 (io), 24 PIO0_1/CLKOUT/CT32B0_MAT2 (io), 25 PIO0_2/SSEL0/CT16B0_CAP0 (io), 26 PIO0_3 (io), 27 PIO0_4/SCL (io), 28 PIO0_7/~{CTS} (io)